# Altium integrated library Lattice FPGA XP2.IntLib: 160 symbols (part 20 of 34)
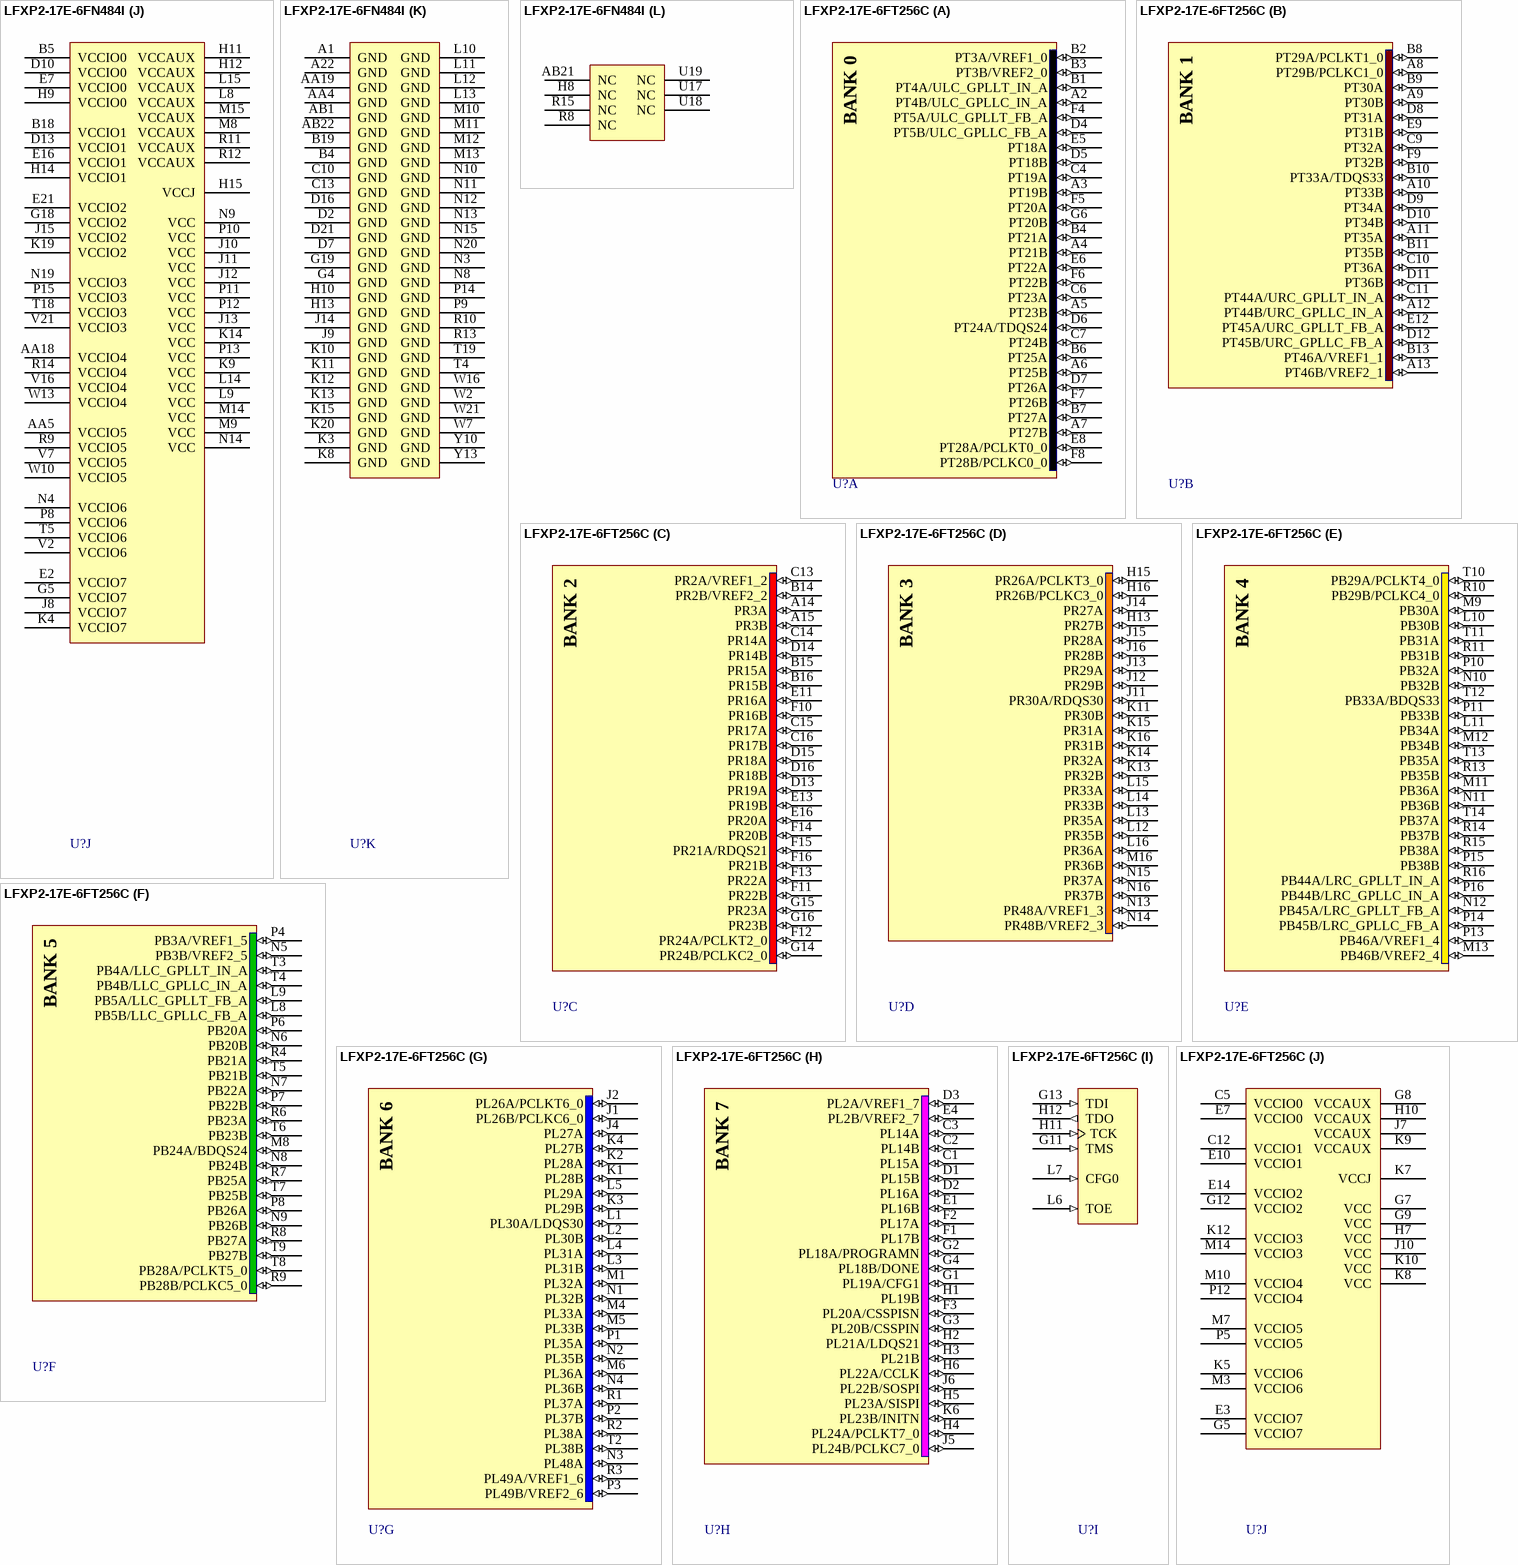
[diagram p183: symbols LFXP2-17E-6FN484I to LFXP2-17E-6FT256C]

## LFXP2-17E-6FN484I
designator U?
XP2, 1.2V FPGA, 358 I/Os, 17k LUTs, 484-Pin fpBGA, Speed Grade 6, Industrial Grade, Pb-Free; Published: 20-Jul-2007; DatasheetVersion: ver01.8, Jun-2008; PackageVersion: ver01.6 Apr-2008; PackageReference: fpBGA484; Publisher: Altium Limited; PackageDescription: 484-Ball Fine Pitch Ball Grid Array (fpBGA484); Code_IPC: BGA100P22X22-484; ComponentLink1Description: Manufacturer Link; ComponentLink1URL: http://www.latticesemi.com/products/fpga/xp2/index.cfm; ComponentLink2Description: Datasheet; ComponentLink2URL: http://www.latticesemi.com/documents/DS1009.pdf; ComponentLink3Description: Packaging Specification; ComponentLink3URL: http://www.latticesemi.com/lit/docs/package/pkg.pdf
footprint fpBGA484 (BGA, 484-Leads, Body 23x23mm, Pitch 1mm)
3D model LFXP2-17E-F484 (484-Ball Fine Pitch Ball Grid Array (fpBGA484))
part A pins: A2 PT4A/ULC_GPLLT_IN_A (io), A3 PT9A (io), A4 PT9B (io), A5 PT12A (io), A6 PT12B (io), A7 PT16A (io), A8 PT17A (io), A9 PT17B (io), A10 PT21A (io), A11 PT21B (io), A12 PT24B (io), A13 PT25B (io), A14 PT28B/PCLKC0_0 (io), B3 PT4B/ULC_GPLLC_IN_A (io), B6 PT13A (io), B7 PT13B (io), B8 PT16B (io), B9 PT20A (io), B10 PT20B (io), B11 PT24A/TDQS24 (io), B12 PT25A (io), B13 PT28A/PCLKT0_0 (io), C4 PT8B (io), C5 PT8A (io), C6 PT10A (io), C7 PT10B (io), C8 PT14B (io), C9 PT18B (io), C11 PT22B (io), C12 PT26B (io), D5 PT6B (io), D6 PT6A/TDQS6 (io), D8 PT14A (io), D9 PT18A (io), D11 PT22A (io), E6 PT3B/VREF2_0 (io), E8 PT7B (io), E9 PT15A/TDQS15 (io), E10 PT19B (io), E11 PT26A (io), F6 PT3A/VREF1_0 (io), F7 PT5A/ULC_GPLLT_FB_A (io), F8 PT7A (io), F9 PT15B (io), F10 PT19A (io), F11 PT27A (io), F12 PT27B (io), G7 PT5B/ULC_GPLLC_FB_A (io), G8 PT23A (io), G9 PT23B (io), H7 PT11A (io), J7 PT11B (io)
part B pins: A15 PT29B/PCLKC1_0 (io), A16 PT32B (io), A17 PT33B (io), A18 PT36B (io), A19 PT42B (io), A20 PT44A/URC_GPLLT_IN_A (io), A21 PT42A/TDQS42 (io), B14 PT29A/PCLKT1_0 (io), B15 PT32A (io), B16 PT33A/TDQS33 (io), B17 PT36A (io), C14 PT34B (io), C15 PT41A (io), C16 PT37A (io), C17 PT37B (io), C18 PT45A/URC_GPLLT_FB_A (io), C19 PT45B/URC_GPLLC_FB_A (io), D12 PT30B (io), D14 PT38B (io), D15 PT41B (io), D17 PT43A (io), D18 PT43B (io), D19 PT44B/URC_GPLLC_IN_A (io), E12 PT30A (io), E13 PT34A (io), E14 PT40A (io), E15 PT40B (io), E17 PT46A/VREF1_1 (io), E18 PT46B/VREF2_1 (io), F13 PT35A (io), F14 PT38A (io), G10 PT31A (io), G11 PT31B (io), G12 PT35B (io), G13 PT39A (io), G14 PT39B (io)
part C pins: B20 PR4A (io), B21 PR8A (io), B22 PR12A (io), C20 PR4B (io), C21 PR8B (io), C22 PR12B (io), D20 PR5B (io), D22 PR13A/RDQS13 (io), E19 PR10A (io), E20 PR5A (io), E22 PR13B (io), F15 PR2A/VREF1_2 (io), F16 PR2B/VREF2_2 (io), F17 PR3B (io), F18 PR3A (io), F19 PR10B (io), F20 PR16A (io), F21 PR16B (io), F22 PR17B (io), G15 PR6A (io), G16 PR6B (io), G17 PR7A (io), G20 PR9B (io), G21 PR17A (io), G22 PR20A (io), H16 PR14A (io), H17 PR14B (io), H18 PR7B (io), H19 PR11B (io), H20 PR9A (io), H21 PR21A/RDQS21 (io), H22 PR20B (io), J16 PR22A (io), J17 PR18A (io), J18 PR15B (io), J19 PR15A (io), J20 PR11A (io), J21 PR21B (io), J22 PR24A/PCLKT2_0 (io), K16 PR22B (io), K17 PR18B (io), K18 PR19A (io), K22 PR24B/PCLKC2_0 (io), L17 PR19B (io), L18 PR23B (io), L19 PR23A (io)
part D pins: K21 PR26A/PCLKT3_0 (io), L21 PR26B/PCLKC3_0 (io), M16 PR28B (io), M17 PR28A (io), M19 PR27A (io), M20 PR27B (io), M21 PR29A (io), M22 PR30A/RDQS30 (io), N16 PR36B (io), N17 PR36A (io), N18 PR31B (io), N21 PR29B (io), N22 PR30B (io), P16 PR40A (io), P17 PR40B (io), P18 PR31A (io), P19 PR37A (io), P20 PR32B (io), P21 PR32A (io), P22 PR33A (io), R16 PR44A (io), R17 PR41B (io), R18 PR41A (io), R19 PR37B (io), R20 PR35B (io), R21 PR35A (io), R22 PR33B (io), T17 PR44B (io), T20 PR38B (io), T21 PR38A (io), T22 PR39A/RDQS39 (io), U20 PR43A (io), U21 PR42A (io), U22 PR39B (io), V17 PR48A/VREF1_3 (io), V18 PR48B/VREF2_3 (io), V19 PR47B (io), V20 PR43B (io), V22 PR42B (io), W19 PR47A (io), W20 PR46B (io), W22 PR46A (io), Y19 PR45B (io), Y20 PR45A (io)
part E pins: AA13 PB30B (io), AA14 PB33A/BDQS33 (io), AA15 PB33B (io), AA16 PB36A (io), AA17 PB36B (io), AA20 PB37B (io), AA21 PB40B (io), AA22 PB40A (io), AB16 PB29A/PCLKT4_0 (io), AB17 PB29B/PCLKC4_0 (io), AB18 PB32A (io), AB19 PB32B (io), AB20 PB37A (io), T14 PB34A (io), T15 PB34B (io), T16 PB43A (io), U12 PB31B (io), U13 PB35B (io), U14 PB39A (io), U15 PB39B (io), U16 PB43B (io), V12 PB31A (io), V13 PB35A (io), V14 PB38B (io), V15 PB42B (io), W14 PB38A (io), W15 PB42A/BDQS42 (io), W17 PB46A/VREF1_4 (io), W18 PB46B/VREF2_4 (io), Y14 PB30A (io), Y15 PB44B/LRC_GPLLC_IN_A (io), Y16 PB44A/LRC_GPLLT_IN_A (io), Y17 PB45A/LRC_GPLLT_FB_A (io), Y18 PB45B/LRC_GPLLC_FB_A (io), Y21 PB41B (io), Y22 PB41A (io)
part F pins: AA6 PB13A (io), AA7 PB13B (io), AA8 PB16A (io), AA9 PB16B (io), AA10 PB18B (io), AA11 PB18A (io), AA12 PB22A (io), AB2 PB17A (io), AB3 PB17B (io), AB4 PB20A (io), AB5 PB20B (io), AB6 PB21A (io), AB7 PB21B (io), AB8 PB24A/BDQS24 (io), AB9 PB24B (io), AB10 PB25B (io), AB11 PB25A (io), AB12 PB26B (io), AB13 PB26A (io), AB14 PB28A/PCLKT5_0 (io), AB15 PB28B/PCLKC5_0 (io), T8 PB7A (io), T9 PB7B (io), T10 PB14A (io), T11 PB19A (io), T12 PB23A (io), T13 PB23B (io), U6 PB5B/LLC_GPLLC_FB_A (io), U7 PB3A/VREF1_5 (io), U8 PB3B/VREF2_5 (io), U9 PB11A (io), U10 PB11B (io), U11 PB19B (io), V6 PB5A/LLC_GPLLT_FB_A (io), V8 PB6A/BDQS6 (io), V9 PB12A (io), V10 PB14B (io), V11 PB15A/BDQS15 (io), W4 PB4A/LLC_GPLLT_IN_A (io), W5 PB8A (io), W6 PB8B (io), W8 PB6B (io), W9 PB12B (io), W11 PB15B (io), W12 PB27B (io), Y5 PB4B/LLC_GPLLC_IN_A (io), Y6 PB9A (io), Y7 PB9B (io), Y8 PB10B (io), Y9 PB10A (io), Y11 PB22B (io), Y12 PB27A (io)
part G pins: AA1 PL35B (io), AA2 PL38A (io), AA3 PL47A (io), M3 PL29A (io), M4 PL28A (io), M5 PL28B (io), M6 PL27A (io), M7 PL27B (io), N2 PL29B (io), N5 PL31A (io), N6 PL31B (io), N7 PL36A (io), P1 PL26A/PCLKT6_0 (io), P2 PL32A (io), P3 PL32B (io), P4 PL37A (io), P5 PL37B (io), P6 PL40B (io), P7 PL36B (io), R1 PL26B/PCLKC6_0 (io), R2 PL39A/LDQS39 (io), R3 PL41A (io), R4 PL41B (io), R5 PL40A (io), R6 PL44B (io), R7 PL44A (io), T1 PL30A/LDQS30 (io), T2 PL39B (io), T3 PL46A (io), T6 PL48A (io), T7 PL48B (io), U1 PL30B (io), U2 PL43A (io), U3 PL46B (io), U4 PL45A (io), U5 PL45B (io), V1 PL33A (io), V3 PL43B (io), V4 PL49A/VREF1_6 (io), V5 PL49B/VREF2_6 (io), W1 PL33B (io), W3 PL42B (io), Y1 PL35A (io), Y2 PL38B (io), Y3 PL42A (io), Y4 PL47B (io)
part H pins: B1 PL3A (io), B2 PL2B/VREF2_7 (io), C1 PL4A (io), C2 PL3B (io), C3 PL2A/VREF1_7 (io), D1 PL4B (io), D3 PL6B (io), D4 PL6A (io), E1 PL5B (io), E3 PL5A (io), E4 PL7A (io), E5 PL7B (io), F1 PL9A (io), F2 PL8B (io), F3 PL8A (io), F4 PL10B (io), F5 PL10A (io), G1 PL9B (io), G2 PL12B (io), G3 PL12A (io), G6 PL14A (io), H1 PL13A/LDQS13 (io), H2 PL13B (io), H3 PL11A (io), H4 PL11B (io), H5 PL15A (io), H6 PL14B (io), J1 PL16A (io), J2 PL16B (io), J3 PL19A/CFG1 (io), J4 PL19B (io), J5 PL15B (io), J6 PL18A/PROGRAMN (io), K1 PL17A (io), K2 PL17B (io), K5 PL18B/DONE (io), K6 PL22A/CCLK (io), K7 PL22B/SOSPI (io), L1 PL20A/CSSPISN (io), L2 PL20B/CSSPIN (io), L3 PL24A/PCLKT7_0 (io), L4 PL24B/PCLKC7_0 (io), L5 PL23A/SISPI (io), L6 PL23B/INITN (io), M1 PL21A/LDQS21 (io), M2 PL21B (io)
part I pins: L7 TOE (in), L16 TCK (in), L20 TDI (in), L22 TMS (in), M18 TDO (out), N1 CFG0 (in)
part J pins: AA5 VCCIO5 (power), AA18 VCCIO4 (power), B5 VCCIO0 (power), B18 VCCIO1 (power), D10 VCCIO0 (power), D13 VCCIO1 (power), E2 VCCIO7 (power), E7 VCCIO0 (power), E16 VCCIO1 (power), E21 VCCIO2 (power), G5 VCCIO7 (power), G18 VCCIO2 (power), H9 VCCIO0 (power), H11 VCCAUX (power), H12 VCCAUX (power), H14 VCCIO1 (power), H15 VCCJ (power), J8 VCCIO7 (power), J10 VCC (power), J11 VCC (power), J12 VCC (power), J13 VCC (power), J15 VCCIO2 (power), K4 VCCIO7 (power), K9 VCC (power), K14 VCC (power), K19 VCCIO2 (power), L8 VCCAUX (power), L9 VCC (power), L14 VCC (power), L15 VCCAUX (power), M8 VCCAUX (power), M9 VCC (power), M14 VCC (power), M15 VCCAUX (power), N4 VCCIO6 (power), N9 VCC (power), N14 VCC (power), N19 VCCIO3 (power), P8 VCCIO6 (power), P10 VCC (power), P11 VCC (power), P12 VCC (power), P13 VCC (power), P15 VCCIO3 (power), R9 VCCIO5 (power), R11 VCCAUX (power), R12 VCCAUX (power), R14 VCCIO4 (power), T5 VCCIO6 (power), T18 VCCIO3 (power), V2 VCCIO6 (power), V7 VCCIO5 (power), V16 VCCIO4 (power), V21 VCCIO3 (power), W10 VCCIO5 (power), W13 VCCIO4 (power)
part K pins: A1 GND (power), A22 GND (power), AA4 GND (power), AA19 GND (power), AB1 GND (power), AB22 GND (power), B4 GND (power), B19 GND (power), C10 GND (power), C13 GND (power), D2 GND (power), D7 GND (power), D16 GND (power), D21 GND (power), G4 GND (power), G19 GND (power), H10 GND (power), H13 GND (power), J9 GND (power), J14 GND (power), K3 GND (power), K8 GND (power), K10 GND (power), K11 GND (power), K12 GND (power), K13 GND (power), K15 GND (power), K20 GND (power), L10 GND (power), L11 GND (power), L12 GND (power), L13 GND (power), M10 GND (power), M11 GND (power), M12 GND (power), M13 GND (power), N3 GND (power), N8 GND (power), N10 GND (power), N11 GND (power), N12 GND (power), N13 GND (power), N15 GND (power), N20 GND (power), P9 GND (power), P14 GND (power), R10 GND (power), R13 GND (power), T4 GND (power), T19 GND (power), W2 GND (power), W7 GND (power), W16 GND (power), W21 GND (power), Y10 GND (power), Y13 GND (power)
part L pins: AB21 NC, H8 NC, R8 NC, R15 NC, U17 NC, U18 NC, U19 NC
part A text: BANK 0
part B text: BANK 1
part C text: BANK 2
part D text: BANK 3
part E text: BANK 4
part F text: BANK 5
part G text: BANK 6
part H text: BANK 7

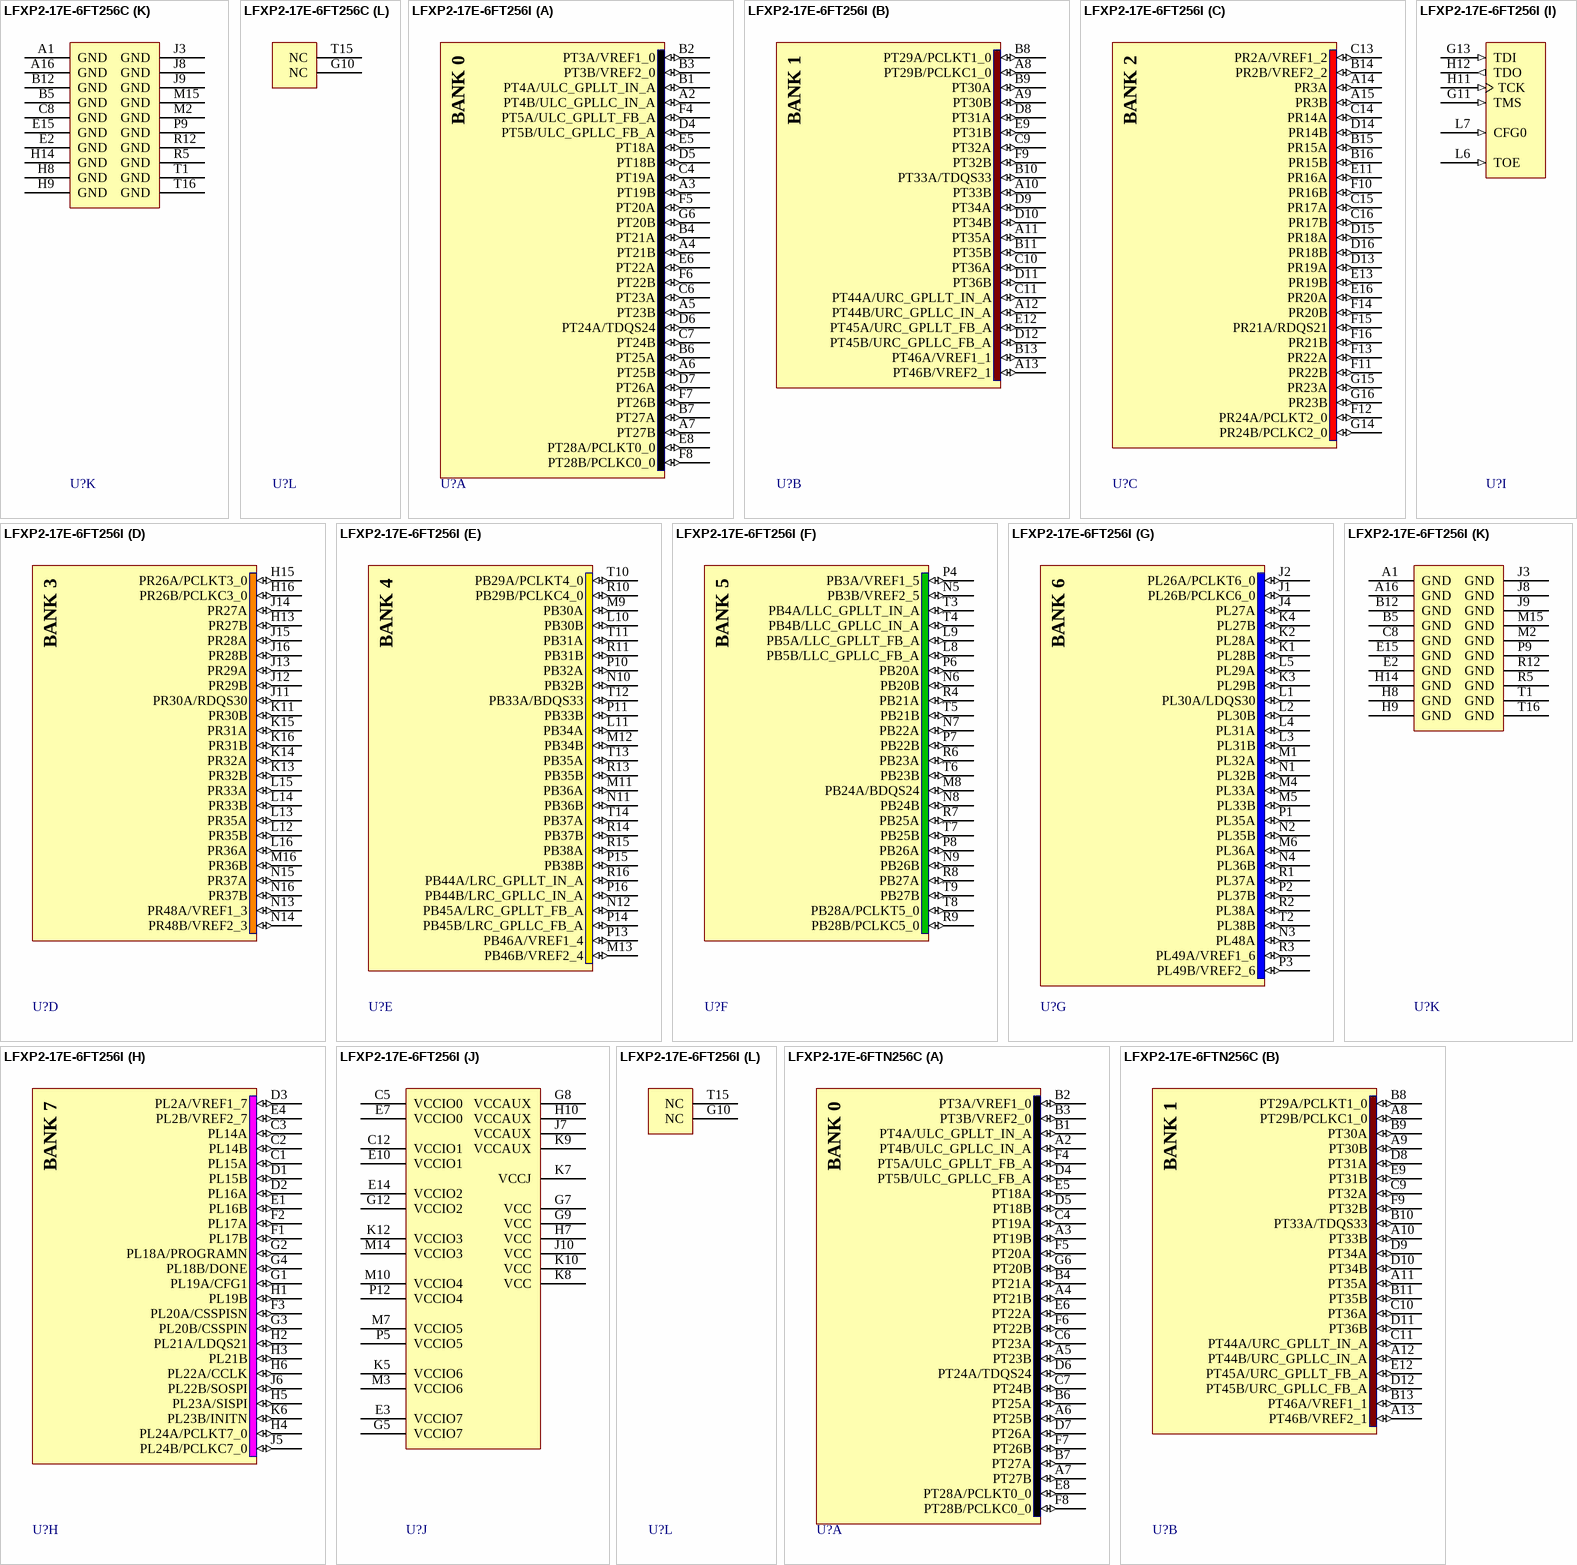
[diagram p78: symbols LFXP2-17E-6FT256C to LFXP2-17E-6FTN256C]

## LFXP2-17E-6FT256C
designator U?
XP2, 1.2V FPGA, 201 I/Os, 17k LUTs, 256-Pin ftBGA, Speed Grade 6, Commerical Grade; Published: 20-Jul-2007; DatasheetVersion: ver01.8, Jun-2008; PackageVersion: ver01.6 Apr-2008; PackageReference: ftBGA256; Publisher: Altium Limited; PackageDescription: 256-Ball Fine Thin Ball Grid Array (ftBGA256); ComponentLink1Description: Manufacturer Link; ComponentLink1URL: http://www.latticesemi.com/products/fpga/xp2/index.cfm; ComponentLink2Description: Datasheet; ComponentLink2URL: http://www.latticesemi.com/documents/DS1009.pdf; ComponentLink3Description: Packaging Specification; ComponentLink3URL: http://www.latticesemi.com/lit/docs/package/pkg.pdf
footprint ftBGA256 (BGA, 256-Leads, Body 17x17mm, Pitch 1mm)
3D model LFXP2-17E-FT256 (256-Ball Fine Thin Ball Grid Array (ftBGA256))
part A pins: A2 PT4B/ULC_GPLLC_IN_A (io), A3 PT19B (io), A4 PT21B (io), A5 PT23B (io), A6 PT25B (io), A7 PT27B (io), B1 PT4A/ULC_GPLLT_IN_A (io), B2 PT3A/VREF1_0 (io), B3 PT3B/VREF2_0 (io), B4 PT21A (io), B6 PT25A (io), B7 PT27A (io), C4 PT19A (io), C6 PT23A (io), C7 PT24B (io), D4 PT5B/ULC_GPLLC_FB_A (io), D5 PT18B (io), D6 PT24A/TDQS24 (io), D7 PT26A (io), E5 PT18A (io), E6 PT22A (io), E8 PT28A/PCLKT0_0 (io), F4 PT5A/ULC_GPLLT_FB_A (io), F5 PT20A (io), F6 PT22B (io), F7 PT26B (io), F8 PT28B/PCLKC0_0 (io), G6 PT20B (io)
part B pins: A8 PT29B/PCLKC1_0 (io), A9 PT30B (io), A10 PT33B (io), A11 PT35A (io), A12 PT44B/URC_GPLLC_IN_A (io), A13 PT46B/VREF2_1 (io), B8 PT29A/PCLKT1_0 (io), B9 PT30A (io), B10 PT33A/TDQS33 (io), B11 PT35B (io), B13 PT46A/VREF1_1 (io), C9 PT32A (io), C10 PT36A (io), C11 PT44A/URC_GPLLT_IN_A (io), D8 PT31A (io), D9 PT34A (io), D10 PT34B (io), D11 PT36B (io), D12 PT45B/URC_GPLLC_FB_A (io), E9 PT31B (io), E12 PT45A/URC_GPLLT_FB_A (io), F9 PT32B (io)
part C pins: A14 PR3A (io), A15 PR3B (io), B14 PR2B/VREF2_2 (io), B15 PR15A (io), B16 PR15B (io), C13 PR2A/VREF1_2 (io), C14 PR14A (io), C15 PR17A (io), C16 PR17B (io), D13 PR19A (io), D14 PR14B (io), D15 PR18A (io), D16 PR18B (io), E11 PR16A (io), E13 PR19B (io), E16 PR20A (io), F10 PR16B (io), F11 PR22B (io), F12 PR24A/PCLKT2_0 (io), F13 PR22A (io), F14 PR20B (io), F15 PR21A/RDQS21 (io), F16 PR21B (io), G14 PR24B/PCLKC2_0 (io), G15 PR23A (io), G16 PR23B (io)
part D pins: H13 PR27B (io), H15 PR26A/PCLKT3_0 (io), H16 PR26B/PCLKC3_0 (io), J11 PR30A/RDQS30 (io), J12 PR29B (io), J13 PR29A (io), J14 PR27A (io), J15 PR28A (io), J16 PR28B (io), K11 PR30B (io), K13 PR32B (io), K14 PR32A (io), K15 PR31A (io), K16 PR31B (io), L12 PR35B (io), L13 PR35A (io), L14 PR33B (io), L15 PR33A (io), L16 PR36A (io), M16 PR36B (io), N13 PR48A/VREF1_3 (io), N14 PR48B/VREF2_3 (io), N15 PR37A (io), N16 PR37B (io)
part E pins: L10 PB30B (io), L11 PB34A (io), M9 PB30A (io), M11 PB36A (io), M12 PB34B (io), M13 PB46B/VREF2_4 (io), N10 PB32B (io), N11 PB36B (io), N12 PB45A/LRC_GPLLT_FB_A (io), P10 PB32A (io), P11 PB33B (io), P13 PB46A/VREF1_4 (io), P14 PB45B/LRC_GPLLC_FB_A (io), P15 PB38B (io), P16 PB44B/LRC_GPLLC_IN_A (io), R10 PB29B/PCLKC4_0 (io), R11 PB31B (io), R13 PB35B (io), R14 PB37B (io), R15 PB38A (io), R16 PB44A/LRC_GPLLT_IN_A (io), T10 PB29A/PCLKT4_0 (io), T11 PB31A (io), T12 PB33A/BDQS33 (io), T13 PB35A (io), T14 PB37A (io)
part F pins: L8 PB5B/LLC_GPLLC_FB_A (io), L9 PB5A/LLC_GPLLT_FB_A (io), M8 PB24A/BDQS24 (io), N5 PB3B/VREF2_5 (io), N6 PB20B (io), N7 PB22A (io), N8 PB24B (io), N9 PB26B (io), P4 PB3A/VREF1_5 (io), P6 PB20A (io), P7 PB22B (io), P8 PB26A (io), R4 PB21A (io), R6 PB23A (io), R7 PB25A (io), R8 PB27A (io), R9 PB28B/PCLKC5_0 (io), T3 PB4A/LLC_GPLLT_IN_A (io), T4 PB4B/LLC_GPLLC_IN_A (io), T5 PB21B (io), T6 PB23B (io), T7 PB25B (io), T8 PB28A/PCLKT5_0 (io), T9 PB27B (io)
part G pins: J1 PL26B/PCLKC6_0 (io), J2 PL26A/PCLKT6_0 (io), J4 PL27A (io), K1 PL28B (io), K2 PL28A (io), K3 PL29B (io), K4 PL27B (io), L1 PL30A/LDQS30 (io), L2 PL30B (io), L3 PL31B (io), L4 PL31A (io), L5 PL29A (io), M1 PL32A (io), M4 PL33A (io), M5 PL33B (io), M6 PL36A (io), N1 PL32B (io), N2 PL35B (io), N3 PL48A (io), N4 PL36B (io), P1 PL35A (io), P2 PL37B (io), P3 PL49B/VREF2_6 (io), R1 PL37A (io), R2 PL38A (io), R3 PL49A/VREF1_6 (io), T2 PL38B (io)
part H pins: C1 PL15A (io), C2 PL14B (io), C3 PL14A (io), D1 PL15B (io), D2 PL16A (io), D3 PL2A/VREF1_7 (io), E1 PL16B (io), E4 PL2B/VREF2_7 (io), F1 PL17B (io), F2 PL17A (io), F3 PL20A/CSSPISN (io), G1 PL19A/CFG1 (io), G2 PL18A/PROGRAMN (io), G3 PL20B/CSSPIN (io), G4 PL18B/DONE (io), H1 PL19B (io), H2 PL21A/LDQS21 (io), H3 PL21B (io), H4 PL24A/PCLKT7_0 (io), H5 PL23A/SISPI (io), H6 PL22A/CCLK (io), J5 PL24B/PCLKC7_0 (io), J6 PL22B/SOSPI (io), K6 PL23B/INITN (io)
part I pins: G11 TMS (in), G13 TDI (in), H11 TCK (in), H12 TDO (out), L6 TOE (in), L7 CFG0 (in)
part J pins: C5 VCCIO0 (power), C12 VCCIO1 (power), E3 VCCIO7 (power), E7 VCCIO0 (power), E10 VCCIO1 (power), E14 VCCIO2 (power), G5 VCCIO7 (power), G7 VCC (power), G8 VCCAUX (power), G9 VCC (power), G12 VCCIO2 (power), H7 VCC (power), H10 VCCAUX (power), J7 VCCAUX (power), J10 VCC (power), K5 VCCIO6 (power), K7 VCCJ (power), K8 VCC (power), K9 VCCAUX (power), K10 VCC (power), K12 VCCIO3 (power), M3 VCCIO6 (power), M7 VCCIO5 (power), M10 VCCIO4 (power), M14 VCCIO3 (power), P5 VCCIO5 (power), P12 VCCIO4 (power)
part K pins: A1 GND (power), A16 GND (power), B5 GND (power), B12 GND (power), C8 GND (power), E2 GND (power), E15 GND (power), H8 GND (power), H9 GND (power), H14 GND (power), J3 GND (power), J8 GND (power), J9 GND (power), M2 GND (power), M15 GND (power), P9 GND (power), R5 GND (power), R12 GND (power), T1 GND (power), T16 GND (power)
part L pins: G10 NC, T15 NC
part A text: BANK 0
part B text: BANK 1
part C text: BANK 2
part D text: BANK 3
part E text: BANK 4
part F text: BANK 5
part G text: BANK 6
part H text: BANK 7

## LFXP2-17E-6FT256I
designator U?
XP2, 1.2V FPGA, 201 I/Os, 17k LUTs, 256-Pin ftBGA, Speed Grade 6, Industrial Grade; Published: 20-Jul-2007; DatasheetVersion: ver01.8, Jun-2008; PackageVersion: ver01.6 Apr-2008; PackageReference: ftBGA256; Publisher: Altium Limited; PackageDescription: 256-Ball Fine Thin Ball Grid Array (ftBGA256); ComponentLink1Description: Manufacturer Link; ComponentLink1URL: http://www.latticesemi.com/products/fpga/xp2/index.cfm; ComponentLink2Description: Datasheet; ComponentLink2URL: http://www.latticesemi.com/documents/DS1009.pdf; ComponentLink3Description: Packaging Specification; ComponentLink3URL: http://www.latticesemi.com/lit/docs/package/pkg.pdf
footprint ftBGA256 (BGA, 256-Leads, Body 17x17mm, Pitch 1mm)
3D model LFXP2-17E-FT256 (256-Ball Fine Thin Ball Grid Array (ftBGA256))
part A pins: A2 PT4B/ULC_GPLLC_IN_A (io), A3 PT19B (io), A4 PT21B (io), A5 PT23B (io), A6 PT25B (io), A7 PT27B (io), B1 PT4A/ULC_GPLLT_IN_A (io), B2 PT3A/VREF1_0 (io), B3 PT3B/VREF2_0 (io), B4 PT21A (io), B6 PT25A (io), B7 PT27A (io), C4 PT19A (io), C6 PT23A (io), C7 PT24B (io), D4 PT5B/ULC_GPLLC_FB_A (io), D5 PT18B (io), D6 PT24A/TDQS24 (io), D7 PT26A (io), E5 PT18A (io), E6 PT22A (io), E8 PT28A/PCLKT0_0 (io), F4 PT5A/ULC_GPLLT_FB_A (io), F5 PT20A (io), F6 PT22B (io), F7 PT26B (io), F8 PT28B/PCLKC0_0 (io), G6 PT20B (io)
part B pins: A8 PT29B/PCLKC1_0 (io), A9 PT30B (io), A10 PT33B (io), A11 PT35A (io), A12 PT44B/URC_GPLLC_IN_A (io), A13 PT46B/VREF2_1 (io), B8 PT29A/PCLKT1_0 (io), B9 PT30A (io), B10 PT33A/TDQS33 (io), B11 PT35B (io), B13 PT46A/VREF1_1 (io), C9 PT32A (io), C10 PT36A (io), C11 PT44A/URC_GPLLT_IN_A (io), D8 PT31A (io), D9 PT34A (io), D10 PT34B (io), D11 PT36B (io), D12 PT45B/URC_GPLLC_FB_A (io), E9 PT31B (io), E12 PT45A/URC_GPLLT_FB_A (io), F9 PT32B (io)
part C pins: A14 PR3A (io), A15 PR3B (io), B14 PR2B/VREF2_2 (io), B15 PR15A (io), B16 PR15B (io), C13 PR2A/VREF1_2 (io), C14 PR14A (io), C15 PR17A (io), C16 PR17B (io), D13 PR19A (io), D14 PR14B (io), D15 PR18A (io), D16 PR18B (io), E11 PR16A (io), E13 PR19B (io), E16 PR20A (io), F10 PR16B (io), F11 PR22B (io), F12 PR24A/PCLKT2_0 (io), F13 PR22A (io), F14 PR20B (io), F15 PR21A/RDQS21 (io), F16 PR21B (io), G14 PR24B/PCLKC2_0 (io), G15 PR23A (io), G16 PR23B (io)
part D pins: H13 PR27B (io), H15 PR26A/PCLKT3_0 (io), H16 PR26B/PCLKC3_0 (io), J11 PR30A/RDQS30 (io), J12 PR29B (io), J13 PR29A (io), J14 PR27A (io), J15 PR28A (io), J16 PR28B (io), K11 PR30B (io), K13 PR32B (io), K14 PR32A (io), K15 PR31A (io), K16 PR31B (io), L12 PR35B (io), L13 PR35A (io), L14 PR33B (io), L15 PR33A (io), L16 PR36A (io), M16 PR36B (io), N13 PR48A/VREF1_3 (io), N14 PR48B/VREF2_3 (io), N15 PR37A (io), N16 PR37B (io)
part E pins: L10 PB30B (io), L11 PB34A (io), M9 PB30A (io), M11 PB36A (io), M12 PB34B (io), M13 PB46B/VREF2_4 (io), N10 PB32B (io), N11 PB36B (io), N12 PB45A/LRC_GPLLT_FB_A (io), P10 PB32A (io), P11 PB33B (io), P13 PB46A/VREF1_4 (io), P14 PB45B/LRC_GPLLC_FB_A (io), P15 PB38B (io), P16 PB44B/LRC_GPLLC_IN_A (io), R10 PB29B/PCLKC4_0 (io), R11 PB31B (io), R13 PB35B (io), R14 PB37B (io), R15 PB38A (io), R16 PB44A/LRC_GPLLT_IN_A (io), T10 PB29A/PCLKT4_0 (io), T11 PB31A (io), T12 PB33A/BDQS33 (io), T13 PB35A (io), T14 PB37A (io)
part F pins: L8 PB5B/LLC_GPLLC_FB_A (io), L9 PB5A/LLC_GPLLT_FB_A (io), M8 PB24A/BDQS24 (io), N5 PB3B/VREF2_5 (io), N6 PB20B (io), N7 PB22A (io), N8 PB24B (io), N9 PB26B (io), P4 PB3A/VREF1_5 (io), P6 PB20A (io), P7 PB22B (io), P8 PB26A (io), R4 PB21A (io), R6 PB23A (io), R7 PB25A (io), R8 PB27A (io), R9 PB28B/PCLKC5_0 (io), T3 PB4A/LLC_GPLLT_IN_A (io), T4 PB4B/LLC_GPLLC_IN_A (io), T5 PB21B (io), T6 PB23B (io), T7 PB25B (io), T8 PB28A/PCLKT5_0 (io), T9 PB27B (io)
part G pins: J1 PL26B/PCLKC6_0 (io), J2 PL26A/PCLKT6_0 (io), J4 PL27A (io), K1 PL28B (io), K2 PL28A (io), K3 PL29B (io), K4 PL27B (io), L1 PL30A/LDQS30 (io), L2 PL30B (io), L3 PL31B (io), L4 PL31A (io), L5 PL29A (io), M1 PL32A (io), M4 PL33A (io), M5 PL33B (io), M6 PL36A (io), N1 PL32B (io), N2 PL35B (io), N3 PL48A (io), N4 PL36B (io), P1 PL35A (io), P2 PL37B (io), P3 PL49B/VREF2_6 (io), R1 PL37A (io), R2 PL38A (io), R3 PL49A/VREF1_6 (io), T2 PL38B (io)
part H pins: C1 PL15A (io), C2 PL14B (io), C3 PL14A (io), D1 PL15B (io), D2 PL16A (io), D3 PL2A/VREF1_7 (io), E1 PL16B (io), E4 PL2B/VREF2_7 (io), F1 PL17B (io), F2 PL17A (io), F3 PL20A/CSSPISN (io), G1 PL19A/CFG1 (io), G2 PL18A/PROGRAMN (io), G3 PL20B/CSSPIN (io), G4 PL18B/DONE (io), H1 PL19B (io), H2 PL21A/LDQS21 (io), H3 PL21B (io), H4 PL24A/PCLKT7_0 (io), H5 PL23A/SISPI (io), H6 PL22A/CCLK (io), J5 PL24B/PCLKC7_0 (io), J6 PL22B/SOSPI (io), K6 PL23B/INITN (io)
part I pins: G11 TMS (in), G13 TDI (in), H11 TCK (in), H12 TDO (out), L6 TOE (in), L7 CFG0 (in)
part J pins: C5 VCCIO0 (power), C12 VCCIO1 (power), E3 VCCIO7 (power), E7 VCCIO0 (power), E10 VCCIO1 (power), E14 VCCIO2 (power), G5 VCCIO7 (power), G7 VCC (power), G8 VCCAUX (power), G9 VCC (power), G12 VCCIO2 (power), H7 VCC (power), H10 VCCAUX (power), J7 VCCAUX (power), J10 VCC (power), K5 VCCIO6 (power), K7 VCCJ (power), K8 VCC (power), K9 VCCAUX (power), K10 VCC (power), K12 VCCIO3 (power), M3 VCCIO6 (power), M7 VCCIO5 (power), M10 VCCIO4 (power), M14 VCCIO3 (power), P5 VCCIO5 (power), P12 VCCIO4 (power)
part K pins: A1 GND (power), A16 GND (power), B5 GND (power), B12 GND (power), C8 GND (power), E2 GND (power), E15 GND (power), H8 GND (power), H9 GND (power), H14 GND (power), J3 GND (power), J8 GND (power), J9 GND (power), M2 GND (power), M15 GND (power), P9 GND (power), R5 GND (power), R12 GND (power), T1 GND (power), T16 GND (power)
part L pins: G10 NC, T15 NC
part A text: BANK 0
part B text: BANK 1
part C text: BANK 2
part D text: BANK 3
part E text: BANK 4
part F text: BANK 5
part G text: BANK 6
part H text: BANK 7

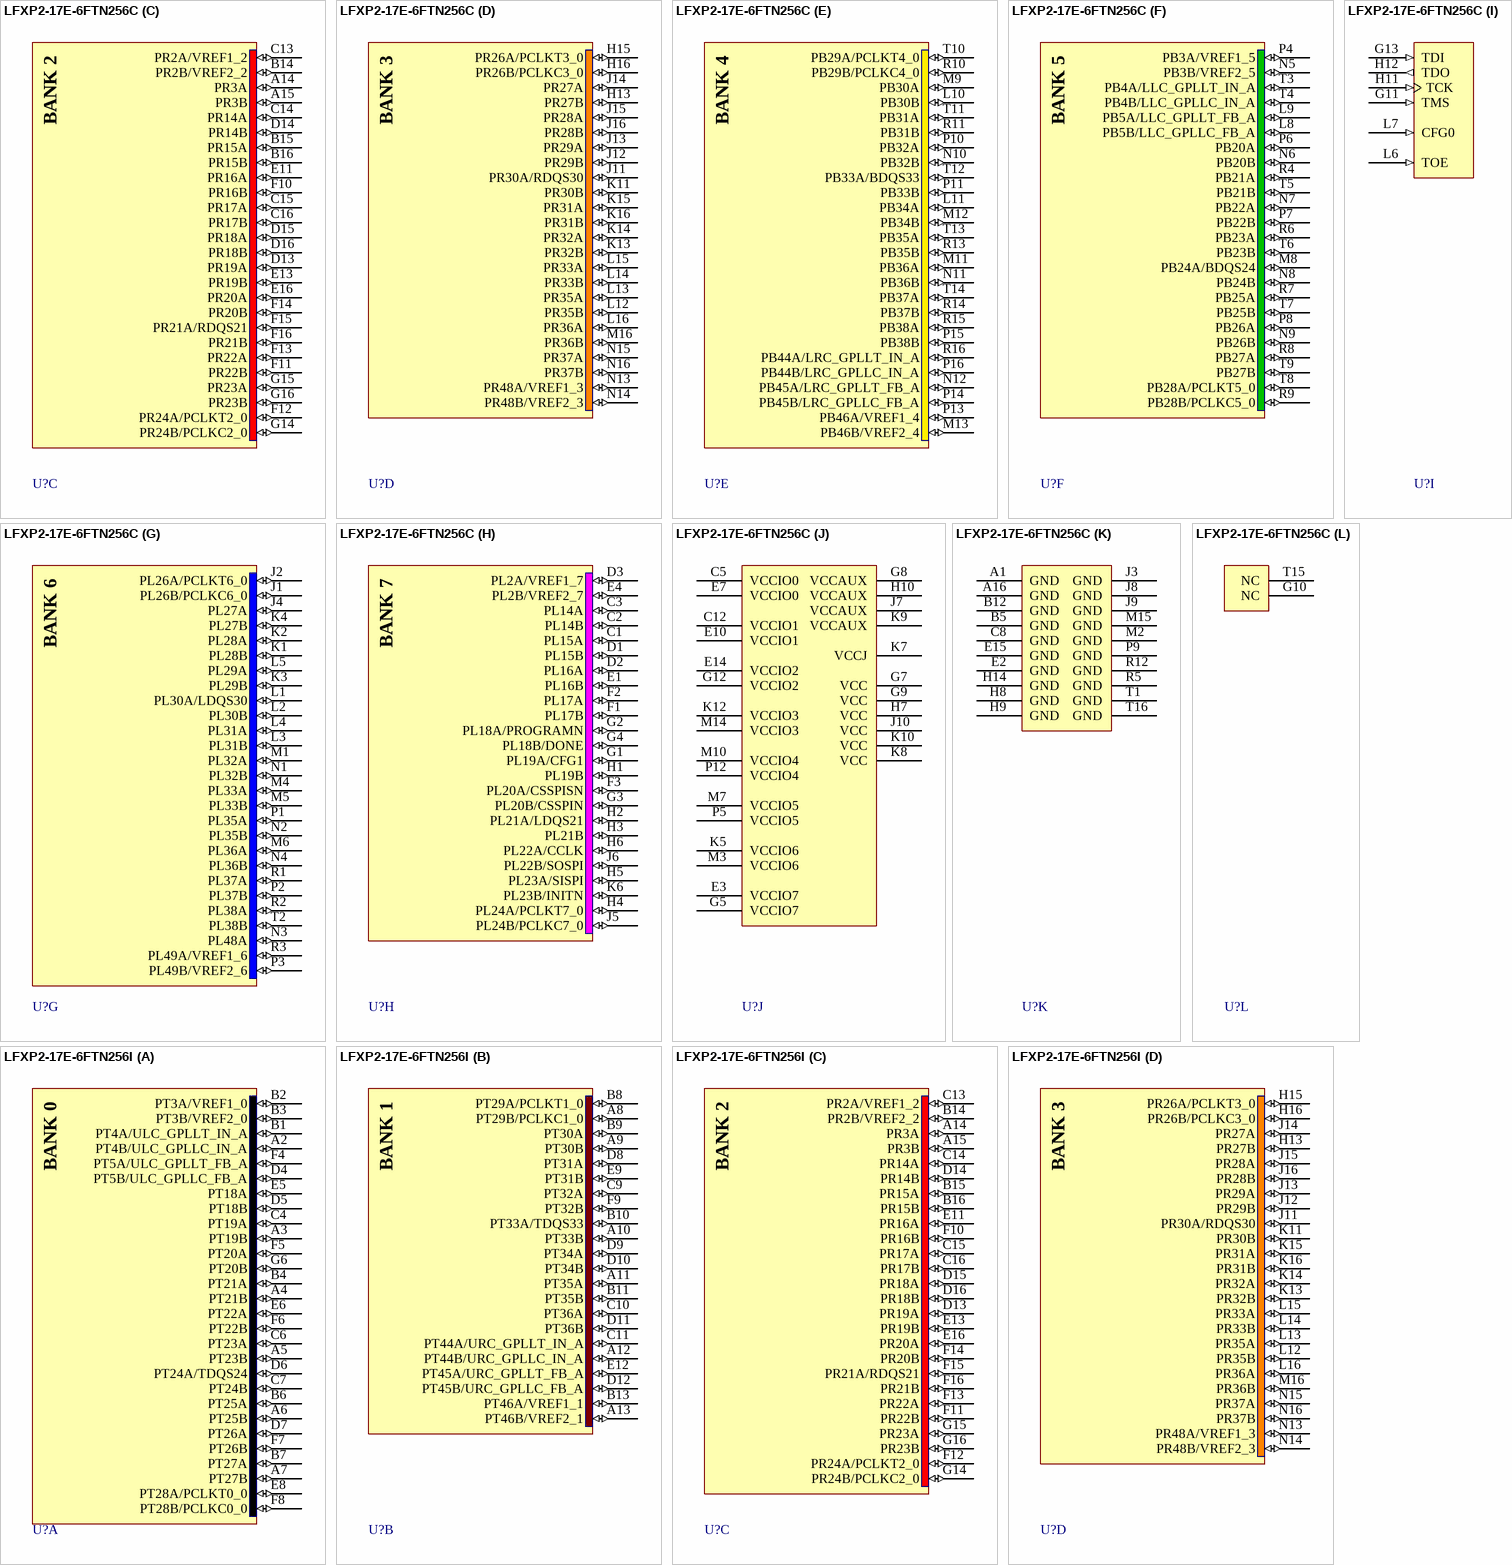
[diagram p79: symbols LFXP2-17E-6FTN256C to LFXP2-17E-6FTN256I]

## LFXP2-17E-6FTN256C
designator U?
XP2, 1.2V FPGA, 201 I/Os, 17k LUTs, 256-Pin ftBGA, Speed Grade 6, Commerical Grade, Pb-Free; Published: 20-Jul-2007; DatasheetVersion: ver01.8, Jun-2008; PackageVersion: ver01.6 Apr-2008; PackageReference: ftBGA256; Publisher: Altium Limited; PackageDescription: 256-Ball Fine Thin Ball Grid Array (ftBGA256); ComponentLink1Description: Manufacturer Link; ComponentLink1URL: http://www.latticesemi.com/products/fpga/xp2/index.cfm; ComponentLink2Description: Datasheet; ComponentLink2URL: http://www.latticesemi.com/documents/DS1009.pdf; ComponentLink3Description: Packaging Specification; ComponentLink3URL: http://www.latticesemi.com/lit/docs/package/pkg.pdf
footprint ftBGA256 (BGA, 256-Leads, Body 17x17mm, Pitch 1mm)
3D model LFXP2-17E-FT256 (256-Ball Fine Thin Ball Grid Array (ftBGA256))
part A pins: A2 PT4B/ULC_GPLLC_IN_A (io), A3 PT19B (io), A4 PT21B (io), A5 PT23B (io), A6 PT25B (io), A7 PT27B (io), B1 PT4A/ULC_GPLLT_IN_A (io), B2 PT3A/VREF1_0 (io), B3 PT3B/VREF2_0 (io), B4 PT21A (io), B6 PT25A (io), B7 PT27A (io), C4 PT19A (io), C6 PT23A (io), C7 PT24B (io), D4 PT5B/ULC_GPLLC_FB_A (io), D5 PT18B (io), D6 PT24A/TDQS24 (io), D7 PT26A (io), E5 PT18A (io), E6 PT22A (io), E8 PT28A/PCLKT0_0 (io), F4 PT5A/ULC_GPLLT_FB_A (io), F5 PT20A (io), F6 PT22B (io), F7 PT26B (io), F8 PT28B/PCLKC0_0 (io), G6 PT20B (io)
part B pins: A8 PT29B/PCLKC1_0 (io), A9 PT30B (io), A10 PT33B (io), A11 PT35A (io), A12 PT44B/URC_GPLLC_IN_A (io), A13 PT46B/VREF2_1 (io), B8 PT29A/PCLKT1_0 (io), B9 PT30A (io), B10 PT33A/TDQS33 (io), B11 PT35B (io), B13 PT46A/VREF1_1 (io), C9 PT32A (io), C10 PT36A (io), C11 PT44A/URC_GPLLT_IN_A (io), D8 PT31A (io), D9 PT34A (io), D10 PT34B (io), D11 PT36B (io), D12 PT45B/URC_GPLLC_FB_A (io), E9 PT31B (io), E12 PT45A/URC_GPLLT_FB_A (io), F9 PT32B (io)
part C pins: A14 PR3A (io), A15 PR3B (io), B14 PR2B/VREF2_2 (io), B15 PR15A (io), B16 PR15B (io), C13 PR2A/VREF1_2 (io), C14 PR14A (io), C15 PR17A (io), C16 PR17B (io), D13 PR19A (io), D14 PR14B (io), D15 PR18A (io), D16 PR18B (io), E11 PR16A (io), E13 PR19B (io), E16 PR20A (io), F10 PR16B (io), F11 PR22B (io), F12 PR24A/PCLKT2_0 (io), F13 PR22A (io), F14 PR20B (io), F15 PR21A/RDQS21 (io), F16 PR21B (io), G14 PR24B/PCLKC2_0 (io), G15 PR23A (io), G16 PR23B (io)
part D pins: H13 PR27B (io), H15 PR26A/PCLKT3_0 (io), H16 PR26B/PCLKC3_0 (io), J11 PR30A/RDQS30 (io), J12 PR29B (io), J13 PR29A (io), J14 PR27A (io), J15 PR28A (io), J16 PR28B (io), K11 PR30B (io), K13 PR32B (io), K14 PR32A (io), K15 PR31A (io), K16 PR31B (io), L12 PR35B (io), L13 PR35A (io), L14 PR33B (io), L15 PR33A (io), L16 PR36A (io), M16 PR36B (io), N13 PR48A/VREF1_3 (io), N14 PR48B/VREF2_3 (io), N15 PR37A (io), N16 PR37B (io)
part E pins: L10 PB30B (io), L11 PB34A (io), M9 PB30A (io), M11 PB36A (io), M12 PB34B (io), M13 PB46B/VREF2_4 (io), N10 PB32B (io), N11 PB36B (io), N12 PB45A/LRC_GPLLT_FB_A (io), P10 PB32A (io), P11 PB33B (io), P13 PB46A/VREF1_4 (io), P14 PB45B/LRC_GPLLC_FB_A (io), P15 PB38B (io), P16 PB44B/LRC_GPLLC_IN_A (io), R10 PB29B/PCLKC4_0 (io), R11 PB31B (io), R13 PB35B (io), R14 PB37B (io), R15 PB38A (io), R16 PB44A/LRC_GPLLT_IN_A (io), T10 PB29A/PCLKT4_0 (io), T11 PB31A (io), T12 PB33A/BDQS33 (io), T13 PB35A (io), T14 PB37A (io)
part F pins: L8 PB5B/LLC_GPLLC_FB_A (io), L9 PB5A/LLC_GPLLT_FB_A (io), M8 PB24A/BDQS24 (io), N5 PB3B/VREF2_5 (io), N6 PB20B (io), N7 PB22A (io), N8 PB24B (io), N9 PB26B (io), P4 PB3A/VREF1_5 (io), P6 PB20A (io), P7 PB22B (io), P8 PB26A (io), R4 PB21A (io), R6 PB23A (io), R7 PB25A (io), R8 PB27A (io), R9 PB28B/PCLKC5_0 (io), T3 PB4A/LLC_GPLLT_IN_A (io), T4 PB4B/LLC_GPLLC_IN_A (io), T5 PB21B (io), T6 PB23B (io), T7 PB25B (io), T8 PB28A/PCLKT5_0 (io), T9 PB27B (io)
part G pins: J1 PL26B/PCLKC6_0 (io), J2 PL26A/PCLKT6_0 (io), J4 PL27A (io), K1 PL28B (io), K2 PL28A (io), K3 PL29B (io), K4 PL27B (io), L1 PL30A/LDQS30 (io), L2 PL30B (io), L3 PL31B (io), L4 PL31A (io), L5 PL29A (io), M1 PL32A (io), M4 PL33A (io), M5 PL33B (io), M6 PL36A (io), N1 PL32B (io), N2 PL35B (io), N3 PL48A (io), N4 PL36B (io), P1 PL35A (io), P2 PL37B (io), P3 PL49B/VREF2_6 (io), R1 PL37A (io), R2 PL38A (io), R3 PL49A/VREF1_6 (io), T2 PL38B (io)
part H pins: C1 PL15A (io), C2 PL14B (io), C3 PL14A (io), D1 PL15B (io), D2 PL16A (io), D3 PL2A/VREF1_7 (io), E1 PL16B (io), E4 PL2B/VREF2_7 (io), F1 PL17B (io), F2 PL17A (io), F3 PL20A/CSSPISN (io), G1 PL19A/CFG1 (io), G2 PL18A/PROGRAMN (io), G3 PL20B/CSSPIN (io), G4 PL18B/DONE (io), H1 PL19B (io), H2 PL21A/LDQS21 (io), H3 PL21B (io), H4 PL24A/PCLKT7_0 (io), H5 PL23A/SISPI (io), H6 PL22A/CCLK (io), J5 PL24B/PCLKC7_0 (io), J6 PL22B/SOSPI (io), K6 PL23B/INITN (io)
part I pins: G11 TMS (in), G13 TDI (in), H11 TCK (in), H12 TDO (out), L6 TOE (in), L7 CFG0 (in)
part J pins: C5 VCCIO0 (power), C12 VCCIO1 (power), E3 VCCIO7 (power), E7 VCCIO0 (power), E10 VCCIO1 (power), E14 VCCIO2 (power), G5 VCCIO7 (power), G7 VCC (power), G8 VCCAUX (power), G9 VCC (power), G12 VCCIO2 (power), H7 VCC (power), H10 VCCAUX (power), J7 VCCAUX (power), J10 VCC (power), K5 VCCIO6 (power), K7 VCCJ (power), K8 VCC (power), K9 VCCAUX (power), K10 VCC (power), K12 VCCIO3 (power), M3 VCCIO6 (power), M7 VCCIO5 (power), M10 VCCIO4 (power), M14 VCCIO3 (power), P5 VCCIO5 (power), P12 VCCIO4 (power)
part K pins: A1 GND (power), A16 GND (power), B5 GND (power), B12 GND (power), C8 GND (power), E2 GND (power), E15 GND (power), H8 GND (power), H9 GND (power), H14 GND (power), J3 GND (power), J8 GND (power), J9 GND (power), M2 GND (power), M15 GND (power), P9 GND (power), R5 GND (power), R12 GND (power), T1 GND (power), T16 GND (power)
part L pins: G10 NC, T15 NC
part A text: BANK 0
part B text: BANK 1
part C text: BANK 2
part D text: BANK 3
part E text: BANK 4
part F text: BANK 5
part G text: BANK 6
part H text: BANK 7

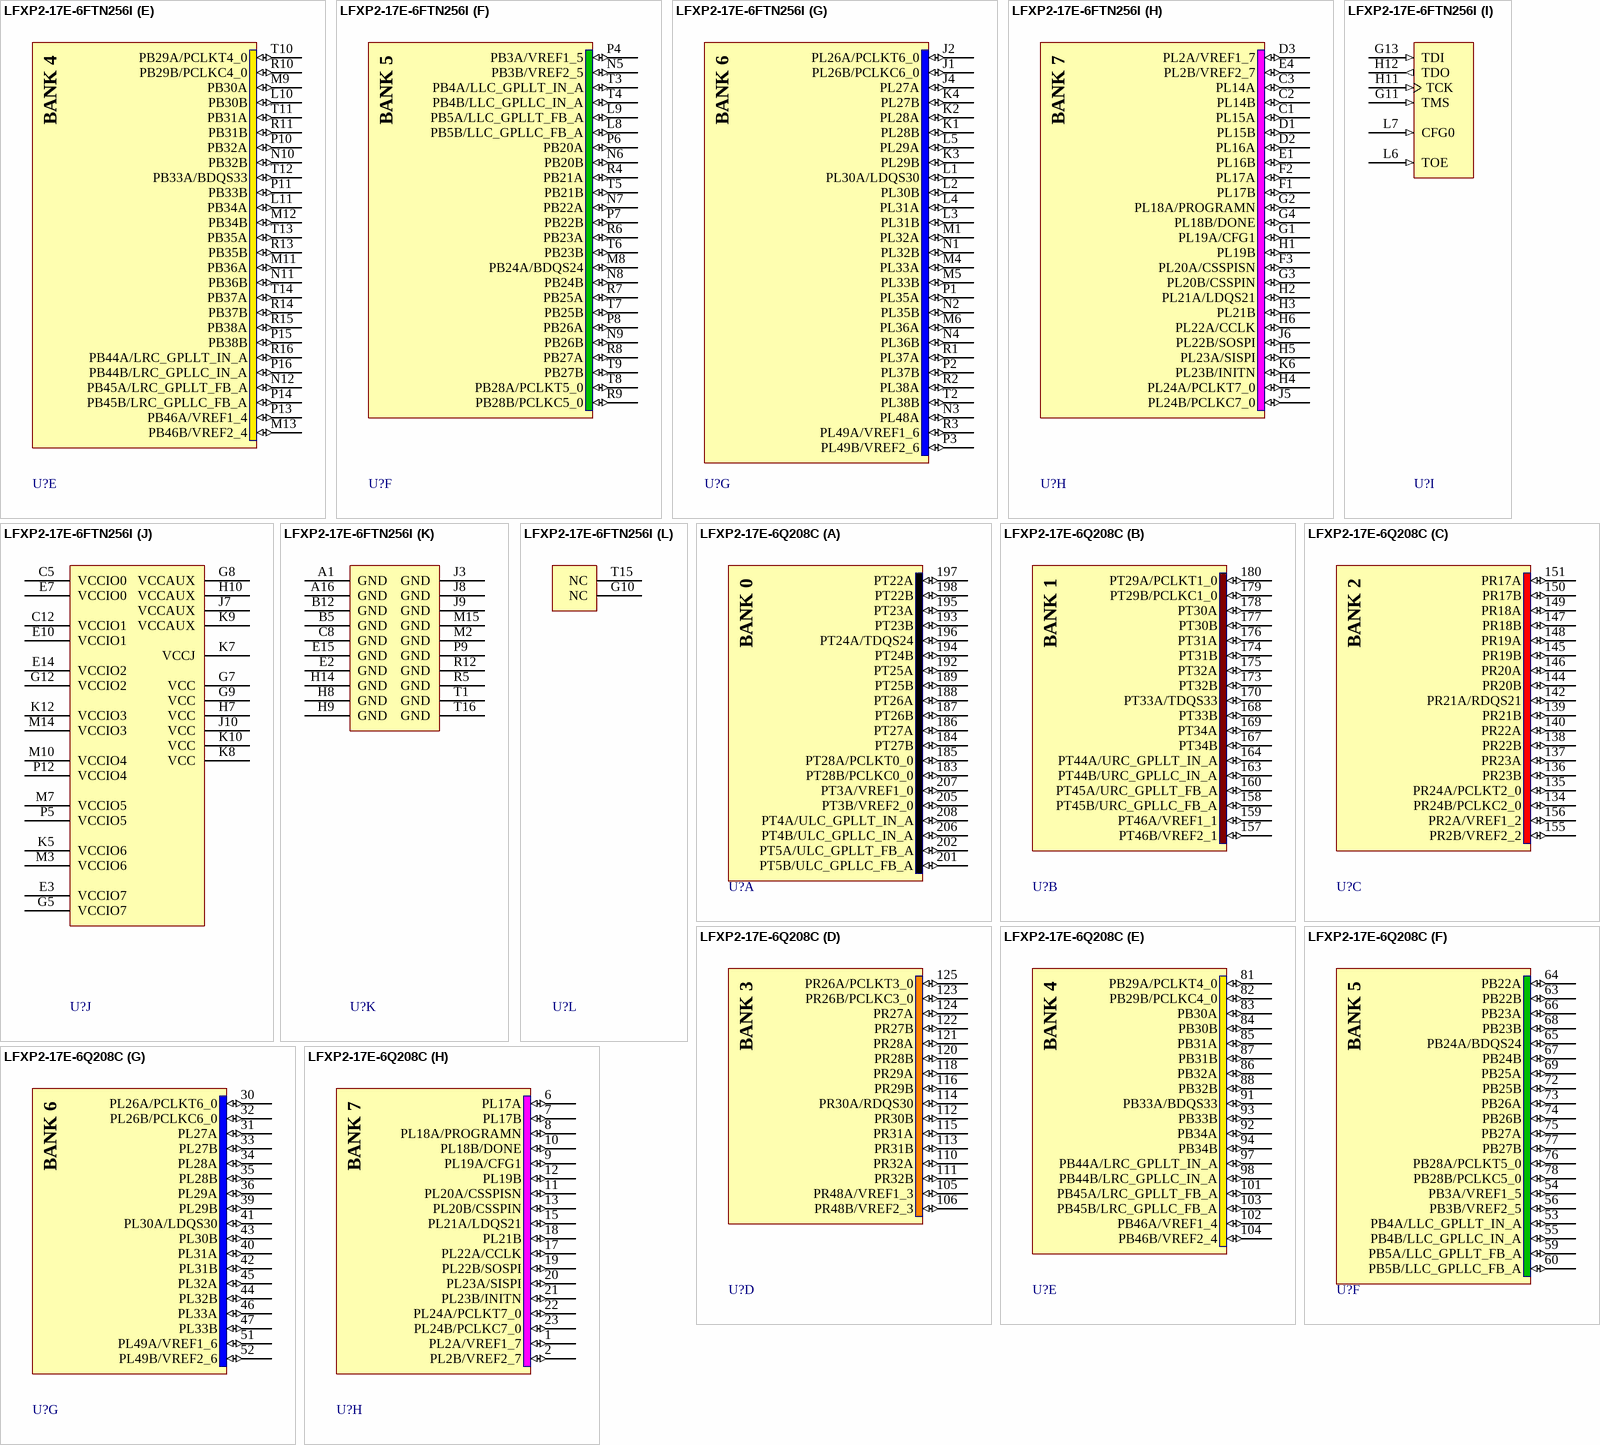
[diagram p80: symbols LFXP2-17E-6FTN256I to LFXP2-17E-6Q208C]

## LFXP2-17E-6FTN256I
designator U?
XP2, 1.2V FPGA, 201 I/Os, 17k LUTs, 256-Pin ftBGA, Speed Grade 6, Industrial Grade, Pb-Free; Published: 20-Jul-2007; DatasheetVersion: ver01.8, Jun-2008; PackageVersion: ver01.6 Apr-2008; PackageReference: ftBGA256; Publisher: Altium Limited; PackageDescription: 256-Ball Fine Thin Ball Grid Array (ftBGA256); ComponentLink1Description: Manufacturer Link; ComponentLink1URL: http://www.latticesemi.com/products/fpga/xp2/index.cfm; ComponentLink2Description: Datasheet; ComponentLink2URL: http://www.latticesemi.com/documents/DS1009.pdf; ComponentLink3Description: Packaging Specification; ComponentLink3URL: http://www.latticesemi.com/lit/docs/package/pkg.pdf
footprint ftBGA256 (BGA, 256-Leads, Body 17x17mm, Pitch 1mm)
3D model LFXP2-17E-FT256 (256-Ball Fine Thin Ball Grid Array (ftBGA256))
part A pins: A2 PT4B/ULC_GPLLC_IN_A (io), A3 PT19B (io), A4 PT21B (io), A5 PT23B (io), A6 PT25B (io), A7 PT27B (io), B1 PT4A/ULC_GPLLT_IN_A (io), B2 PT3A/VREF1_0 (io), B3 PT3B/VREF2_0 (io), B4 PT21A (io), B6 PT25A (io), B7 PT27A (io), C4 PT19A (io), C6 PT23A (io), C7 PT24B (io), D4 PT5B/ULC_GPLLC_FB_A (io), D5 PT18B (io), D6 PT24A/TDQS24 (io), D7 PT26A (io), E5 PT18A (io), E6 PT22A (io), E8 PT28A/PCLKT0_0 (io), F4 PT5A/ULC_GPLLT_FB_A (io), F5 PT20A (io), F6 PT22B (io), F7 PT26B (io), F8 PT28B/PCLKC0_0 (io), G6 PT20B (io)
part B pins: A8 PT29B/PCLKC1_0 (io), A9 PT30B (io), A10 PT33B (io), A11 PT35A (io), A12 PT44B/URC_GPLLC_IN_A (io), A13 PT46B/VREF2_1 (io), B8 PT29A/PCLKT1_0 (io), B9 PT30A (io), B10 PT33A/TDQS33 (io), B11 PT35B (io), B13 PT46A/VREF1_1 (io), C9 PT32A (io), C10 PT36A (io), C11 PT44A/URC_GPLLT_IN_A (io), D8 PT31A (io), D9 PT34A (io), D10 PT34B (io), D11 PT36B (io), D12 PT45B/URC_GPLLC_FB_A (io), E9 PT31B (io), E12 PT45A/URC_GPLLT_FB_A (io), F9 PT32B (io)
part C pins: A14 PR3A (io), A15 PR3B (io), B14 PR2B/VREF2_2 (io), B15 PR15A (io), B16 PR15B (io), C13 PR2A/VREF1_2 (io), C14 PR14A (io), C15 PR17A (io), C16 PR17B (io), D13 PR19A (io), D14 PR14B (io), D15 PR18A (io), D16 PR18B (io), E11 PR16A (io), E13 PR19B (io), E16 PR20A (io), F10 PR16B (io), F11 PR22B (io), F12 PR24A/PCLKT2_0 (io), F13 PR22A (io), F14 PR20B (io), F15 PR21A/RDQS21 (io), F16 PR21B (io), G14 PR24B/PCLKC2_0 (io), G15 PR23A (io), G16 PR23B (io)
part D pins: H13 PR27B (io), H15 PR26A/PCLKT3_0 (io), H16 PR26B/PCLKC3_0 (io), J11 PR30A/RDQS30 (io), J12 PR29B (io), J13 PR29A (io), J14 PR27A (io), J15 PR28A (io), J16 PR28B (io), K11 PR30B (io), K13 PR32B (io), K14 PR32A (io), K15 PR31A (io), K16 PR31B (io), L12 PR35B (io), L13 PR35A (io), L14 PR33B (io), L15 PR33A (io), L16 PR36A (io), M16 PR36B (io), N13 PR48A/VREF1_3 (io), N14 PR48B/VREF2_3 (io), N15 PR37A (io), N16 PR37B (io)
part E pins: L10 PB30B (io), L11 PB34A (io), M9 PB30A (io), M11 PB36A (io), M12 PB34B (io), M13 PB46B/VREF2_4 (io), N10 PB32B (io), N11 PB36B (io), N12 PB45A/LRC_GPLLT_FB_A (io), P10 PB32A (io), P11 PB33B (io), P13 PB46A/VREF1_4 (io), P14 PB45B/LRC_GPLLC_FB_A (io), P15 PB38B (io), P16 PB44B/LRC_GPLLC_IN_A (io), R10 PB29B/PCLKC4_0 (io), R11 PB31B (io), R13 PB35B (io), R14 PB37B (io), R15 PB38A (io), R16 PB44A/LRC_GPLLT_IN_A (io), T10 PB29A/PCLKT4_0 (io), T11 PB31A (io), T12 PB33A/BDQS33 (io), T13 PB35A (io), T14 PB37A (io)
part F pins: L8 PB5B/LLC_GPLLC_FB_A (io), L9 PB5A/LLC_GPLLT_FB_A (io), M8 PB24A/BDQS24 (io), N5 PB3B/VREF2_5 (io), N6 PB20B (io), N7 PB22A (io), N8 PB24B (io), N9 PB26B (io), P4 PB3A/VREF1_5 (io), P6 PB20A (io), P7 PB22B (io), P8 PB26A (io), R4 PB21A (io), R6 PB23A (io), R7 PB25A (io), R8 PB27A (io), R9 PB28B/PCLKC5_0 (io), T3 PB4A/LLC_GPLLT_IN_A (io), T4 PB4B/LLC_GPLLC_IN_A (io), T5 PB21B (io), T6 PB23B (io), T7 PB25B (io), T8 PB28A/PCLKT5_0 (io), T9 PB27B (io)
part G pins: J1 PL26B/PCLKC6_0 (io), J2 PL26A/PCLKT6_0 (io), J4 PL27A (io), K1 PL28B (io), K2 PL28A (io), K3 PL29B (io), K4 PL27B (io), L1 PL30A/LDQS30 (io), L2 PL30B (io), L3 PL31B (io), L4 PL31A (io), L5 PL29A (io), M1 PL32A (io), M4 PL33A (io), M5 PL33B (io), M6 PL36A (io), N1 PL32B (io), N2 PL35B (io), N3 PL48A (io), N4 PL36B (io), P1 PL35A (io), P2 PL37B (io), P3 PL49B/VREF2_6 (io), R1 PL37A (io), R2 PL38A (io), R3 PL49A/VREF1_6 (io), T2 PL38B (io)
part H pins: C1 PL15A (io), C2 PL14B (io), C3 PL14A (io), D1 PL15B (io), D2 PL16A (io), D3 PL2A/VREF1_7 (io), E1 PL16B (io), E4 PL2B/VREF2_7 (io), F1 PL17B (io), F2 PL17A (io), F3 PL20A/CSSPISN (io), G1 PL19A/CFG1 (io), G2 PL18A/PROGRAMN (io), G3 PL20B/CSSPIN (io), G4 PL18B/DONE (io), H1 PL19B (io), H2 PL21A/LDQS21 (io), H3 PL21B (io), H4 PL24A/PCLKT7_0 (io), H5 PL23A/SISPI (io), H6 PL22A/CCLK (io), J5 PL24B/PCLKC7_0 (io), J6 PL22B/SOSPI (io), K6 PL23B/INITN (io)
part I pins: G11 TMS (in), G13 TDI (in), H11 TCK (in), H12 TDO (out), L6 TOE (in), L7 CFG0 (in)
part J pins: C5 VCCIO0 (power), C12 VCCIO1 (power), E3 VCCIO7 (power), E7 VCCIO0 (power), E10 VCCIO1 (power), E14 VCCIO2 (power), G5 VCCIO7 (power), G7 VCC (power), G8 VCCAUX (power), G9 VCC (power), G12 VCCIO2 (power), H7 VCC (power), H10 VCCAUX (power), J7 VCCAUX (power), J10 VCC (power), K5 VCCIO6 (power), K7 VCCJ (power), K8 VCC (power), K9 VCCAUX (power), K10 VCC (power), K12 VCCIO3 (power), M3 VCCIO6 (power), M7 VCCIO5 (power), M10 VCCIO4 (power), M14 VCCIO3 (power), P5 VCCIO5 (power), P12 VCCIO4 (power)
part K pins: A1 GND (power), A16 GND (power), B5 GND (power), B12 GND (power), C8 GND (power), E2 GND (power), E15 GND (power), H8 GND (power), H9 GND (power), H14 GND (power), J3 GND (power), J8 GND (power), J9 GND (power), M2 GND (power), M15 GND (power), P9 GND (power), R5 GND (power), R12 GND (power), T1 GND (power), T16 GND (power)
part L pins: G10 NC, T15 NC
part A text: BANK 0
part B text: BANK 1
part C text: BANK 2
part D text: BANK 3
part E text: BANK 4
part F text: BANK 5
part G text: BANK 6
part H text: BANK 7

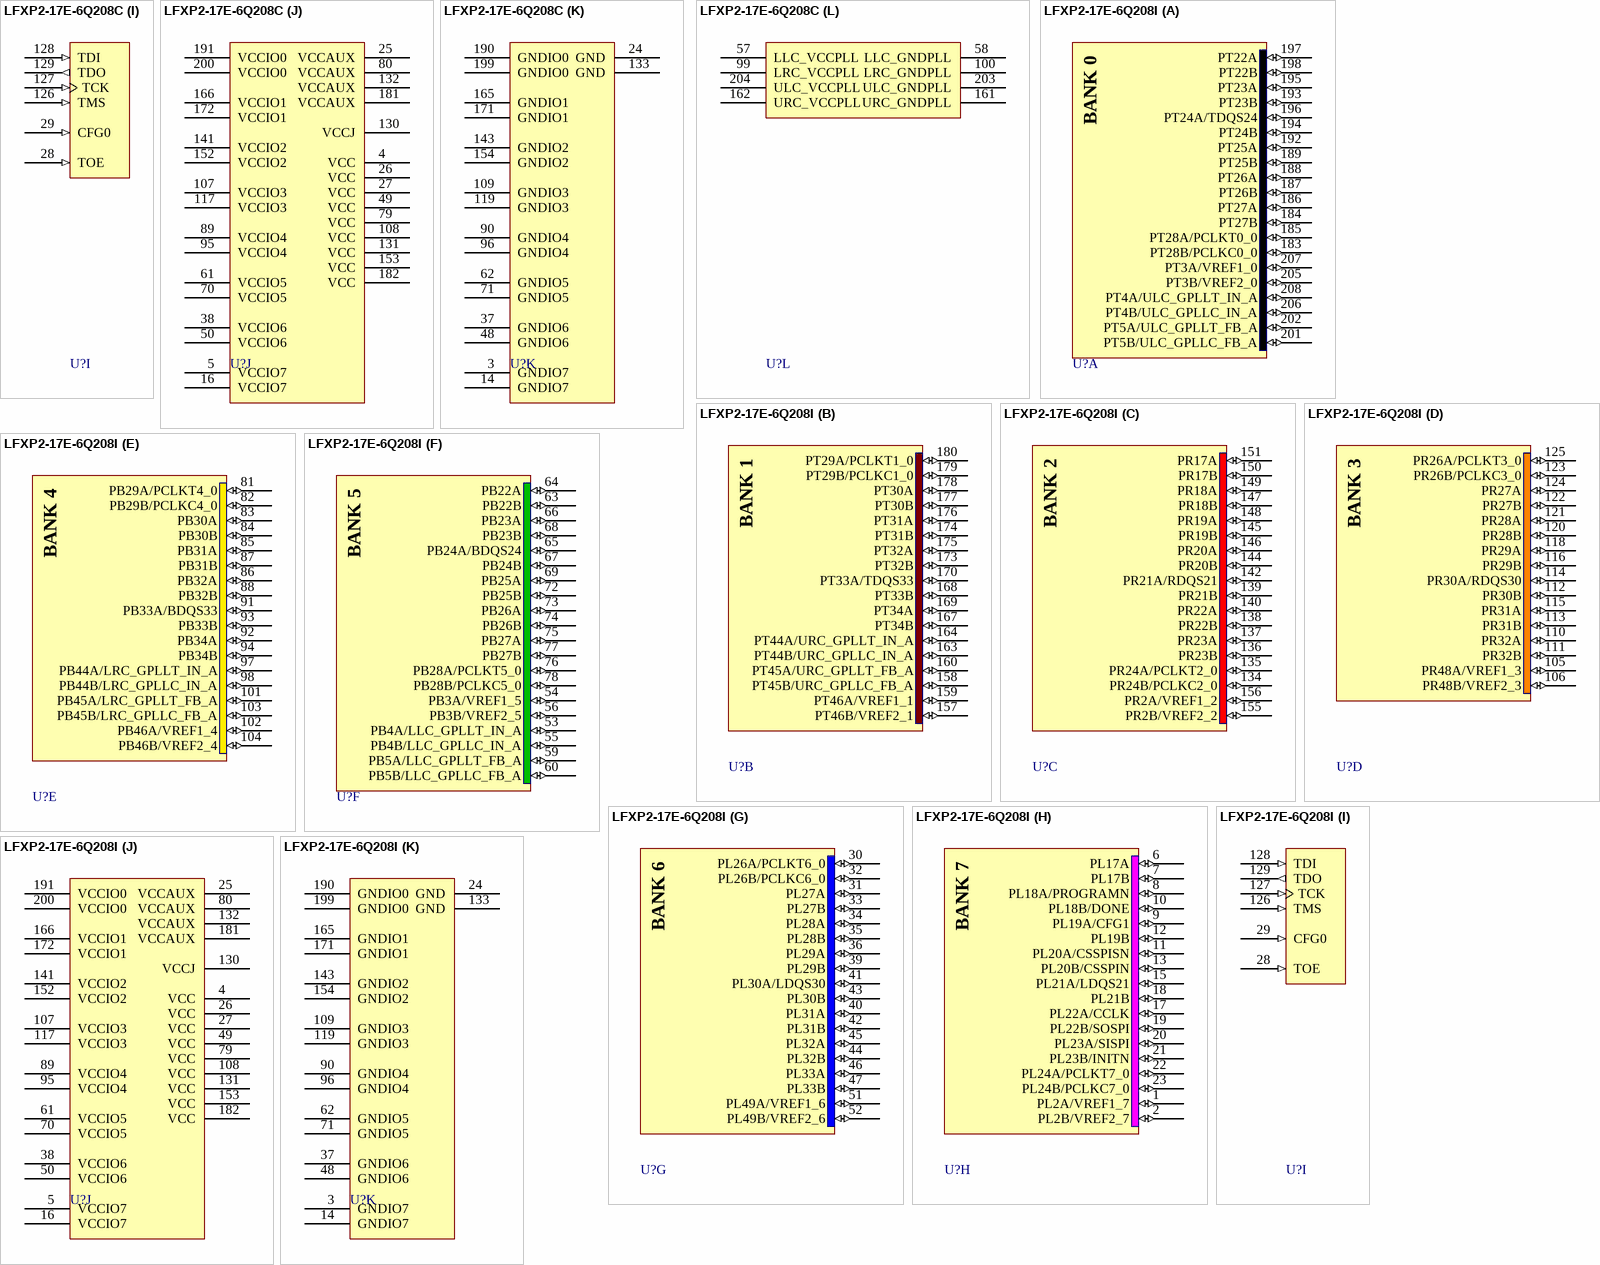
[diagram p81: symbols LFXP2-17E-6Q208C to LFXP2-17E-6Q208I]

## LFXP2-17E-6Q208C
designator U?
XP2, 1.2V FPGA, 146 I/Os, 17k LUTs, 208-Pin PQFP, Speed Grade 6, Commerical Grade; Published: 20-Jul-2007; DatasheetVersion: ver01.8, Jun-2008; PackageVersion: ver01.6 Apr-2008; PackageReference: PQFP208; Publisher: Altium Limited; PackageDescription: 208-Pin Plastic Quad Flat Pack (PQFP208); Code_JEDEC: MO-143-FAI; ComponentLink1Description: Manufacturer Link; ComponentLink1URL: http://www.latticesemi.com/products/fpga/xp2/index.cfm; ComponentLink2Description: Datasheet; ComponentLink2URL: http://www.latticesemi.com/documents/DS1009.pdf; ComponentLink3Description: Packaging Specification; ComponentLink3URL: http://www.latticesemi.com/lit/docs/package/pkg.pdf
footprint PQFP208_N (Shrink QFP, 208-Leads, Body 28x28mm, Pitch 0.5mm, IPC Medium Density)
footprint PQFP208_L (Shrink QFP, 208-Leads, Body 28x28mm, Pitch 0.5mm, IPC High Density)
footprint PQFP208_M (Shrink QFP, 208-Leads, Body 28x28mm, Pitch 0.5mm, IPC Low Density)
3D model LFXP2-17E-Q208 (208-Pin Plastic Quad Flat Pack (PQFP208))
part A pins: 183 PT28B/PCLKC0_0 (io), 184 PT27B (io), 185 PT28A/PCLKT0_0 (io), 186 PT27A (io), 187 PT26B (io), 188 PT26A (io), 189 PT25B (io), 192 PT25A (io), 193 PT23B (io), 194 PT24B (io), 195 PT23A (io), 196 PT24A/TDQS24 (io), 197 PT22A (io), 198 PT22B (io), 201 PT5B/ULC_GPLLC_FB_A (io), 202 PT5A/ULC_GPLLT_FB_A (io), 205 PT3B/VREF2_0 (io), 206 PT4B/ULC_GPLLC_IN_A (io), 207 PT3A/VREF1_0 (io), 208 PT4A/ULC_GPLLT_IN_A (io)
part B pins: 157 PT46B/VREF2_1 (io), 158 PT45B/URC_GPLLC_FB_A (io), 159 PT46A/VREF1_1 (io), 160 PT45A/URC_GPLLT_FB_A (io), 163 PT44B/URC_GPLLC_IN_A (io), 164 PT44A/URC_GPLLT_IN_A (io), 167 PT34B (io), 168 PT33B (io), 169 PT34A (io), 170 PT33A/TDQS33 (io), 173 PT32B (io), 174 PT31B (io), 175 PT32A (io), 176 PT31A (io), 177 PT30B (io), 178 PT30A (io), 179 PT29B/PCLKC1_0 (io), 180 PT29A/PCLKT1_0 (io)
part C pins: 134 PR24B/PCLKC2_0 (io), 135 PR24A/PCLKT2_0 (io), 136 PR23B (io), 137 PR23A (io), 138 PR22B (io), 139 PR21B (io), 140 PR22A (io), 142 PR21A/RDQS21 (io), 144 PR20B (io), 145 PR19B (io), 146 PR20A (io), 147 PR18B (io), 148 PR19A (io), 149 PR18A (io), 150 PR17B (io), 151 PR17A (io), 155 PR2B/VREF2_2 (io), 156 PR2A/VREF1_2 (io)
part D pins: 105 PR48A/VREF1_3 (io), 106 PR48B/VREF2_3 (io), 110 PR32A (io), 111 PR32B (io), 112 PR30B (io), 113 PR31B (io), 114 PR30A/RDQS30 (io), 115 PR31A (io), 116 PR29B (io), 118 PR29A (io), 120 PR28B (io), 121 PR28A (io), 122 PR27B (io), 123 PR26B/PCLKC3_0 (io), 124 PR27A (io), 125 PR26A/PCLKT3_0 (io)
part E pins: 81 PB29A/PCLKT4_0 (io), 82 PB29B/PCLKC4_0 (io), 83 PB30A (io), 84 PB30B (io), 85 PB31A (io), 86 PB32A (io), 87 PB31B (io), 88 PB32B (io), 91 PB33A/BDQS33 (io), 92 PB34A (io), 93 PB33B (io), 94 PB34B (io), 97 PB44A/LRC_GPLLT_IN_A (io), 98 PB44B/LRC_GPLLC_IN_A (io), 101 PB45A/LRC_GPLLT_FB_A (io), 102 PB46A/VREF1_4 (io), 103 PB45B/LRC_GPLLC_FB_A (io), 104 PB46B/VREF2_4 (io)
part F pins: 53 PB4A/LLC_GPLLT_IN_A (io), 54 PB3A/VREF1_5 (io), 55 PB4B/LLC_GPLLC_IN_A (io), 56 PB3B/VREF2_5 (io), 59 PB5A/LLC_GPLLT_FB_A (io), 60 PB5B/LLC_GPLLC_FB_A (io), 63 PB22B (io), 64 PB22A (io), 65 PB24A/BDQS24 (io), 66 PB23A (io), 67 PB24B (io), 68 PB23B (io), 69 PB25A (io), 72 PB25B (io), 73 PB26A (io), 74 PB26B (io), 75 PB27A (io), 76 PB28A/PCLKT5_0 (io), 77 PB27B (io), 78 PB28B/PCLKC5_0 (io)
part G pins: 30 PL26A/PCLKT6_0 (io), 31 PL27A (io), 32 PL26B/PCLKC6_0 (io), 33 PL27B (io), 34 PL28A (io), 35 PL28B (io), 36 PL29A (io), 39 PL29B (io), 40 PL31A (io), 41 PL30A/LDQS30 (io), 42 PL31B (io), 43 PL30B (io), 44 PL32B (io), 45 PL32A (io), 46 PL33A (io), 47 PL33B (io), 51 PL49A/VREF1_6 (io), 52 PL49B/VREF2_6 (io)
part H pins: 1 PL2A/VREF1_7 (io), 2 PL2B/VREF2_7 (io), 6 PL17A (io), 7 PL17B (io), 8 PL18A/PROGRAMN (io), 9 PL19A/CFG1 (io), 10 PL18B/DONE (io), 11 PL20A/CSSPISN (io), 12 PL19B (io), 13 PL20B/CSSPIN (io), 15 PL21A/LDQS21 (io), 17 PL22A/CCLK (io), 18 PL21B (io), 19 PL22B/SOSPI (io), 20 PL23A/SISPI (io), 21 PL23B/INITN (io), 22 PL24A/PCLKT7_0 (io), 23 PL24B/PCLKC7_0 (io)
part I pins: 28 TOE (in), 29 CFG0 (in), 126 TMS (in), 127 TCK (in), 128 TDI (in), 129 TDO (out)
part J pins: 4 VCC (power), 5 VCCIO7 (power), 16 VCCIO7 (power), 25 VCCAUX (power), 26 VCC (power), 27 VCC (power), 38 VCCIO6 (power), 49 VCC (power), 50 VCCIO6 (power), 61 VCCIO5 (power), 70 VCCIO5 (power), 79 VCC (power), 80 VCCAUX (power), 89 VCCIO4 (power), 95 VCCIO4 (power), 107 VCCIO3 (power), 108 VCC (power), 117 VCCIO3 (power), 130 VCCJ (power), 131 VCC (power), 132 VCCAUX (power), 141 VCCIO2 (power), 152 VCCIO2 (power), 153 VCC (power), 166 VCCIO1 (power), 172 VCCIO1 (power), 181 VCCAUX (power), 182 VCC (power), 191 VCCIO0 (power), 200 VCCIO0 (power)
part K pins: 3 GNDIO7 (power), 14 GNDIO7 (power), 24 GND (power), 37 GNDIO6 (power), 48 GNDIO6 (power), 62 GNDIO5 (power), 71 GNDIO5 (power), 90 GNDIO4 (power), 96 GNDIO4 (power), 109 GNDIO3 (power), 119 GNDIO3 (power), 133 GND (power), 143 GNDIO2 (power), 154 GNDIO2 (power), 165 GNDIO1 (power), 171 GNDIO1 (power), 190 GNDIO0 (power), 199 GNDIO0 (power)
part L pins: 57 LLC_VCCPLL (power), 58 LLC_GNDPLL (power), 99 LRC_VCCPLL (power), 100 LRC_GNDPLL (power), 161 URC_GNDPLL (power), 162 URC_VCCPLL (power), 203 ULC_GNDPLL (power), 204 ULC_VCCPLL (power)
part A text: BANK 0
part B text: BANK 1
part C text: BANK 2
part D text: BANK 3
part E text: BANK 4
part F text: BANK 5
part G text: BANK 6
part H text: BANK 7

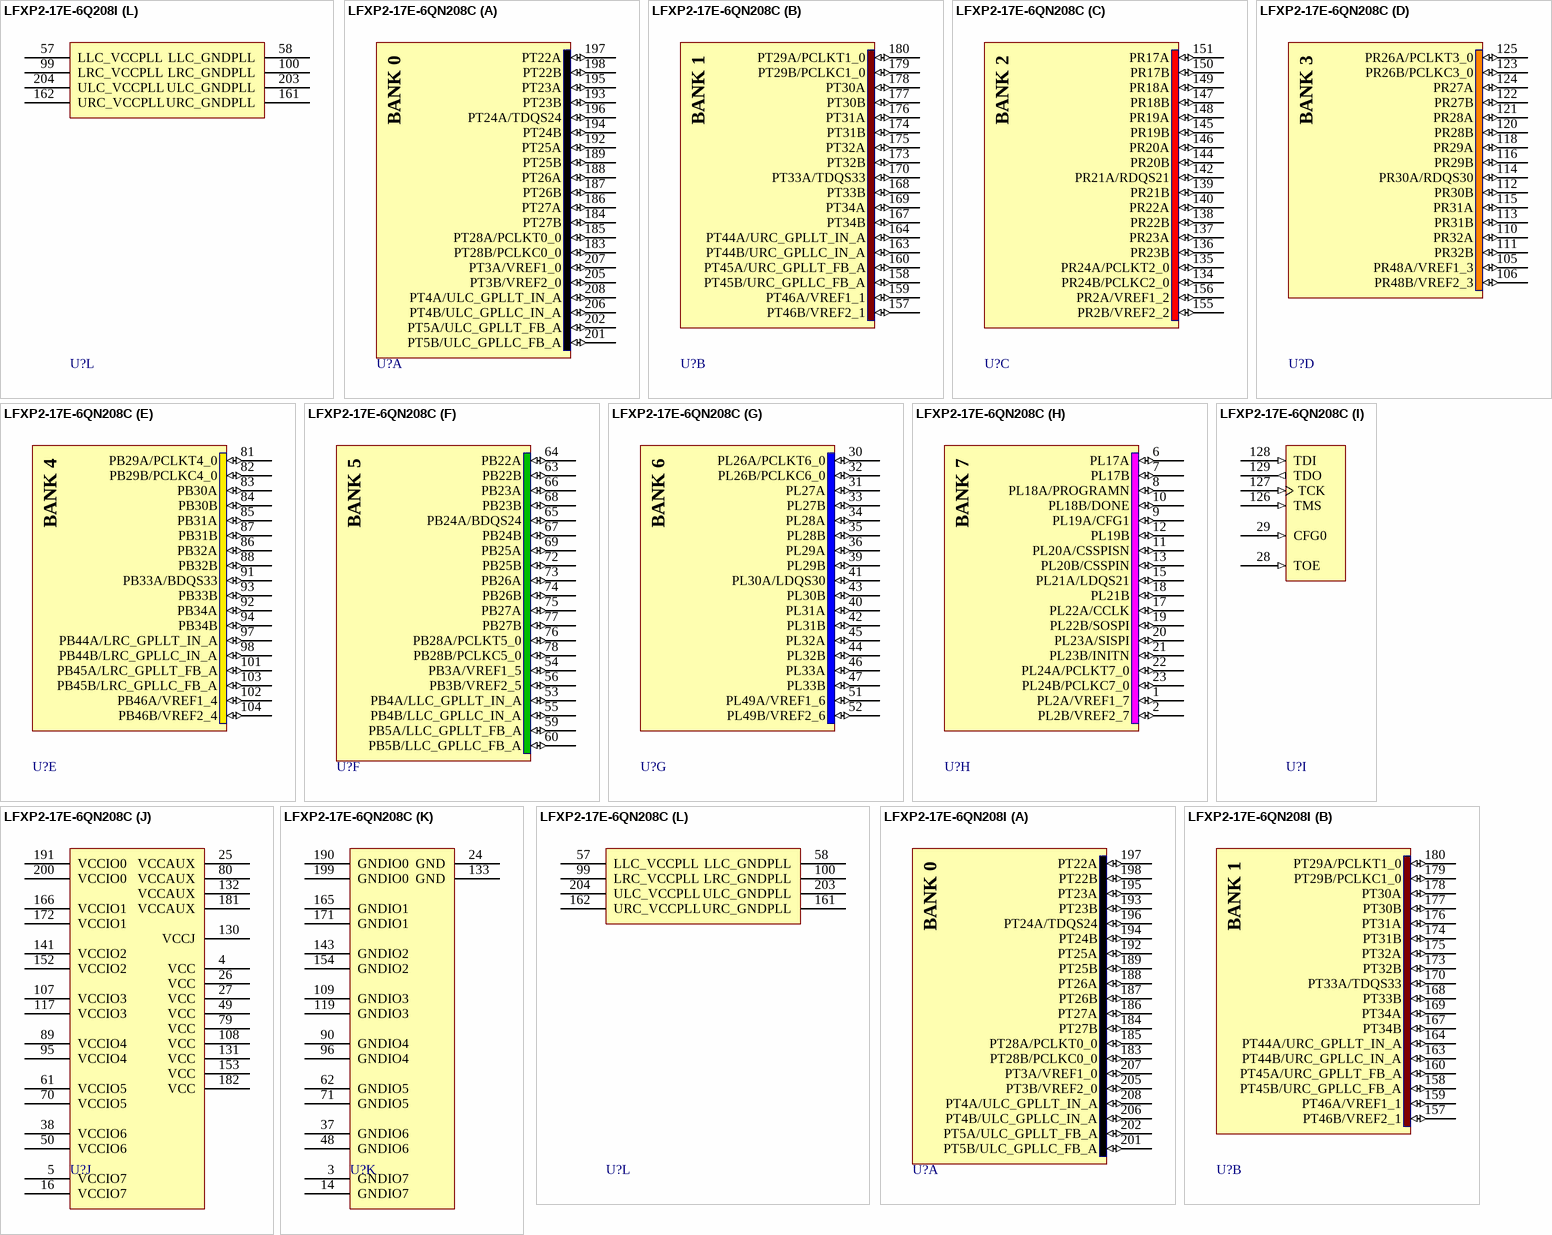
[diagram p82: symbols LFXP2-17E-6Q208I to LFXP2-17E-6QN208I]

## LFXP2-17E-6Q208I
designator U?
XP2, 1.2V FPGA, 146 I/Os, 17k LUTs, 208-Pin PQFP, Speed Grade 6, Industrial Grade; Published: 20-Jul-2007; DatasheetVersion: ver01.8, Jun-2008; PackageVersion: ver01.6 Apr-2008; PackageReference: PQFP208; Publisher: Altium Limited; PackageDescription: 208-Pin Plastic Quad Flat Pack (PQFP208); Code_JEDEC: MO-143-FAI; ComponentLink1Description: Manufacturer Link; ComponentLink1URL: http://www.latticesemi.com/products/fpga/xp2/index.cfm; ComponentLink2Description: Datasheet; ComponentLink2URL: http://www.latticesemi.com/documents/DS1009.pdf; ComponentLink3Description: Packaging Specification; ComponentLink3URL: http://www.latticesemi.com/lit/docs/package/pkg.pdf
footprint PQFP208_N (Shrink QFP, 208-Leads, Body 28x28mm, Pitch 0.5mm, IPC Medium Density)
footprint PQFP208_L (Shrink QFP, 208-Leads, Body 28x28mm, Pitch 0.5mm, IPC High Density)
footprint PQFP208_M (Shrink QFP, 208-Leads, Body 28x28mm, Pitch 0.5mm, IPC Low Density)
3D model LFXP2-17E-Q208 (208-Pin Plastic Quad Flat Pack (PQFP208))
part A pins: 183 PT28B/PCLKC0_0 (io), 184 PT27B (io), 185 PT28A/PCLKT0_0 (io), 186 PT27A (io), 187 PT26B (io), 188 PT26A (io), 189 PT25B (io), 192 PT25A (io), 193 PT23B (io), 194 PT24B (io), 195 PT23A (io), 196 PT24A/TDQS24 (io), 197 PT22A (io), 198 PT22B (io), 201 PT5B/ULC_GPLLC_FB_A (io), 202 PT5A/ULC_GPLLT_FB_A (io), 205 PT3B/VREF2_0 (io), 206 PT4B/ULC_GPLLC_IN_A (io), 207 PT3A/VREF1_0 (io), 208 PT4A/ULC_GPLLT_IN_A (io)
part B pins: 157 PT46B/VREF2_1 (io), 158 PT45B/URC_GPLLC_FB_A (io), 159 PT46A/VREF1_1 (io), 160 PT45A/URC_GPLLT_FB_A (io), 163 PT44B/URC_GPLLC_IN_A (io), 164 PT44A/URC_GPLLT_IN_A (io), 167 PT34B (io), 168 PT33B (io), 169 PT34A (io), 170 PT33A/TDQS33 (io), 173 PT32B (io), 174 PT31B (io), 175 PT32A (io), 176 PT31A (io), 177 PT30B (io), 178 PT30A (io), 179 PT29B/PCLKC1_0 (io), 180 PT29A/PCLKT1_0 (io)
part C pins: 134 PR24B/PCLKC2_0 (io), 135 PR24A/PCLKT2_0 (io), 136 PR23B (io), 137 PR23A (io), 138 PR22B (io), 139 PR21B (io), 140 PR22A (io), 142 PR21A/RDQS21 (io), 144 PR20B (io), 145 PR19B (io), 146 PR20A (io), 147 PR18B (io), 148 PR19A (io), 149 PR18A (io), 150 PR17B (io), 151 PR17A (io), 155 PR2B/VREF2_2 (io), 156 PR2A/VREF1_2 (io)
part D pins: 105 PR48A/VREF1_3 (io), 106 PR48B/VREF2_3 (io), 110 PR32A (io), 111 PR32B (io), 112 PR30B (io), 113 PR31B (io), 114 PR30A/RDQS30 (io), 115 PR31A (io), 116 PR29B (io), 118 PR29A (io), 120 PR28B (io), 121 PR28A (io), 122 PR27B (io), 123 PR26B/PCLKC3_0 (io), 124 PR27A (io), 125 PR26A/PCLKT3_0 (io)
part E pins: 81 PB29A/PCLKT4_0 (io), 82 PB29B/PCLKC4_0 (io), 83 PB30A (io), 84 PB30B (io), 85 PB31A (io), 86 PB32A (io), 87 PB31B (io), 88 PB32B (io), 91 PB33A/BDQS33 (io), 92 PB34A (io), 93 PB33B (io), 94 PB34B (io), 97 PB44A/LRC_GPLLT_IN_A (io), 98 PB44B/LRC_GPLLC_IN_A (io), 101 PB45A/LRC_GPLLT_FB_A (io), 102 PB46A/VREF1_4 (io), 103 PB45B/LRC_GPLLC_FB_A (io), 104 PB46B/VREF2_4 (io)
part F pins: 53 PB4A/LLC_GPLLT_IN_A (io), 54 PB3A/VREF1_5 (io), 55 PB4B/LLC_GPLLC_IN_A (io), 56 PB3B/VREF2_5 (io), 59 PB5A/LLC_GPLLT_FB_A (io), 60 PB5B/LLC_GPLLC_FB_A (io), 63 PB22B (io), 64 PB22A (io), 65 PB24A/BDQS24 (io), 66 PB23A (io), 67 PB24B (io), 68 PB23B (io), 69 PB25A (io), 72 PB25B (io), 73 PB26A (io), 74 PB26B (io), 75 PB27A (io), 76 PB28A/PCLKT5_0 (io), 77 PB27B (io), 78 PB28B/PCLKC5_0 (io)
part G pins: 30 PL26A/PCLKT6_0 (io), 31 PL27A (io), 32 PL26B/PCLKC6_0 (io), 33 PL27B (io), 34 PL28A (io), 35 PL28B (io), 36 PL29A (io), 39 PL29B (io), 40 PL31A (io), 41 PL30A/LDQS30 (io), 42 PL31B (io), 43 PL30B (io), 44 PL32B (io), 45 PL32A (io), 46 PL33A (io), 47 PL33B (io), 51 PL49A/VREF1_6 (io), 52 PL49B/VREF2_6 (io)
part H pins: 1 PL2A/VREF1_7 (io), 2 PL2B/VREF2_7 (io), 6 PL17A (io), 7 PL17B (io), 8 PL18A/PROGRAMN (io), 9 PL19A/CFG1 (io), 10 PL18B/DONE (io), 11 PL20A/CSSPISN (io), 12 PL19B (io), 13 PL20B/CSSPIN (io), 15 PL21A/LDQS21 (io), 17 PL22A/CCLK (io), 18 PL21B (io), 19 PL22B/SOSPI (io), 20 PL23A/SISPI (io), 21 PL23B/INITN (io), 22 PL24A/PCLKT7_0 (io), 23 PL24B/PCLKC7_0 (io)
part I pins: 28 TOE (in), 29 CFG0 (in), 126 TMS (in), 127 TCK (in), 128 TDI (in), 129 TDO (out)
part J pins: 4 VCC (power), 5 VCCIO7 (power), 16 VCCIO7 (power), 25 VCCAUX (power), 26 VCC (power), 27 VCC (power), 38 VCCIO6 (power), 49 VCC (power), 50 VCCIO6 (power), 61 VCCIO5 (power), 70 VCCIO5 (power), 79 VCC (power), 80 VCCAUX (power), 89 VCCIO4 (power), 95 VCCIO4 (power), 107 VCCIO3 (power), 108 VCC (power), 117 VCCIO3 (power), 130 VCCJ (power), 131 VCC (power), 132 VCCAUX (power), 141 VCCIO2 (power), 152 VCCIO2 (power), 153 VCC (power), 166 VCCIO1 (power), 172 VCCIO1 (power), 181 VCCAUX (power), 182 VCC (power), 191 VCCIO0 (power), 200 VCCIO0 (power)
part K pins: 3 GNDIO7 (power), 14 GNDIO7 (power), 24 GND (power), 37 GNDIO6 (power), 48 GNDIO6 (power), 62 GNDIO5 (power), 71 GNDIO5 (power), 90 GNDIO4 (power), 96 GNDIO4 (power), 109 GNDIO3 (power), 119 GNDIO3 (power), 133 GND (power), 143 GNDIO2 (power), 154 GNDIO2 (power), 165 GNDIO1 (power), 171 GNDIO1 (power), 190 GNDIO0 (power), 199 GNDIO0 (power)
part L pins: 57 LLC_VCCPLL (power), 58 LLC_GNDPLL (power), 99 LRC_VCCPLL (power), 100 LRC_GNDPLL (power), 161 URC_GNDPLL (power), 162 URC_VCCPLL (power), 203 ULC_GNDPLL (power), 204 ULC_VCCPLL (power)
part A text: BANK 0
part B text: BANK 1
part C text: BANK 2
part D text: BANK 3
part E text: BANK 4
part F text: BANK 5
part G text: BANK 6
part H text: BANK 7

## LFXP2-17E-6QN208C
designator U?
XP2, 1.2V FPGA, 146 I/Os, 17k LUTs, 208-Pin PQFP, Speed Grade 6, Commerical Grade, Pb-Free; Published: 20-Jul-2007; DatasheetVersion: ver01.8, Jun-2008; PackageVersion: ver01.6 Apr-2008; PackageReference: PQFP208; Publisher: Altium Limited; PackageDescription: 208-Pin Plastic Quad Flat Pack (PQFP208); Code_JEDEC: MO-143-FAI; ComponentLink1Description: Manufacturer Link; ComponentLink1URL: http://www.latticesemi.com/products/fpga/xp2/index.cfm; ComponentLink2Description: Datasheet; ComponentLink2URL: http://www.latticesemi.com/documents/DS1009.pdf; ComponentLink3Description: Packaging Specification; ComponentLink3URL: http://www.latticesemi.com/lit/docs/package/pkg.pdf
footprint PQFP208_N (Shrink QFP, 208-Leads, Body 28x28mm, Pitch 0.5mm, IPC Medium Density)
footprint PQFP208_L (Shrink QFP, 208-Leads, Body 28x28mm, Pitch 0.5mm, IPC High Density)
footprint PQFP208_M (Shrink QFP, 208-Leads, Body 28x28mm, Pitch 0.5mm, IPC Low Density)
3D model LFXP2-17E-Q208 (208-Pin Plastic Quad Flat Pack (PQFP208))
part A pins: 183 PT28B/PCLKC0_0 (io), 184 PT27B (io), 185 PT28A/PCLKT0_0 (io), 186 PT27A (io), 187 PT26B (io), 188 PT26A (io), 189 PT25B (io), 192 PT25A (io), 193 PT23B (io), 194 PT24B (io), 195 PT23A (io), 196 PT24A/TDQS24 (io), 197 PT22A (io), 198 PT22B (io), 201 PT5B/ULC_GPLLC_FB_A (io), 202 PT5A/ULC_GPLLT_FB_A (io), 205 PT3B/VREF2_0 (io), 206 PT4B/ULC_GPLLC_IN_A (io), 207 PT3A/VREF1_0 (io), 208 PT4A/ULC_GPLLT_IN_A (io)
part B pins: 157 PT46B/VREF2_1 (io), 158 PT45B/URC_GPLLC_FB_A (io), 159 PT46A/VREF1_1 (io), 160 PT45A/URC_GPLLT_FB_A (io), 163 PT44B/URC_GPLLC_IN_A (io), 164 PT44A/URC_GPLLT_IN_A (io), 167 PT34B (io), 168 PT33B (io), 169 PT34A (io), 170 PT33A/TDQS33 (io), 173 PT32B (io), 174 PT31B (io), 175 PT32A (io), 176 PT31A (io), 177 PT30B (io), 178 PT30A (io), 179 PT29B/PCLKC1_0 (io), 180 PT29A/PCLKT1_0 (io)
part C pins: 134 PR24B/PCLKC2_0 (io), 135 PR24A/PCLKT2_0 (io), 136 PR23B (io), 137 PR23A (io), 138 PR22B (io), 139 PR21B (io), 140 PR22A (io), 142 PR21A/RDQS21 (io), 144 PR20B (io), 145 PR19B (io), 146 PR20A (io), 147 PR18B (io), 148 PR19A (io), 149 PR18A (io), 150 PR17B (io), 151 PR17A (io), 155 PR2B/VREF2_2 (io), 156 PR2A/VREF1_2 (io)
part D pins: 105 PR48A/VREF1_3 (io), 106 PR48B/VREF2_3 (io), 110 PR32A (io), 111 PR32B (io), 112 PR30B (io), 113 PR31B (io), 114 PR30A/RDQS30 (io), 115 PR31A (io), 116 PR29B (io), 118 PR29A (io), 120 PR28B (io), 121 PR28A (io), 122 PR27B (io), 123 PR26B/PCLKC3_0 (io), 124 PR27A (io), 125 PR26A/PCLKT3_0 (io)
part E pins: 81 PB29A/PCLKT4_0 (io), 82 PB29B/PCLKC4_0 (io), 83 PB30A (io), 84 PB30B (io), 85 PB31A (io), 86 PB32A (io), 87 PB31B (io), 88 PB32B (io), 91 PB33A/BDQS33 (io), 92 PB34A (io), 93 PB33B (io), 94 PB34B (io), 97 PB44A/LRC_GPLLT_IN_A (io), 98 PB44B/LRC_GPLLC_IN_A (io), 101 PB45A/LRC_GPLLT_FB_A (io), 102 PB46A/VREF1_4 (io), 103 PB45B/LRC_GPLLC_FB_A (io), 104 PB46B/VREF2_4 (io)
part F pins: 53 PB4A/LLC_GPLLT_IN_A (io), 54 PB3A/VREF1_5 (io), 55 PB4B/LLC_GPLLC_IN_A (io), 56 PB3B/VREF2_5 (io), 59 PB5A/LLC_GPLLT_FB_A (io), 60 PB5B/LLC_GPLLC_FB_A (io), 63 PB22B (io), 64 PB22A (io), 65 PB24A/BDQS24 (io), 66 PB23A (io), 67 PB24B (io), 68 PB23B (io), 69 PB25A (io), 72 PB25B (io), 73 PB26A (io), 74 PB26B (io), 75 PB27A (io), 76 PB28A/PCLKT5_0 (io), 77 PB27B (io), 78 PB28B/PCLKC5_0 (io)
part G pins: 30 PL26A/PCLKT6_0 (io), 31 PL27A (io), 32 PL26B/PCLKC6_0 (io), 33 PL27B (io), 34 PL28A (io), 35 PL28B (io), 36 PL29A (io), 39 PL29B (io), 40 PL31A (io), 41 PL30A/LDQS30 (io), 42 PL31B (io), 43 PL30B (io), 44 PL32B (io), 45 PL32A (io), 46 PL33A (io), 47 PL33B (io), 51 PL49A/VREF1_6 (io), 52 PL49B/VREF2_6 (io)
part H pins: 1 PL2A/VREF1_7 (io), 2 PL2B/VREF2_7 (io), 6 PL17A (io), 7 PL17B (io), 8 PL18A/PROGRAMN (io), 9 PL19A/CFG1 (io), 10 PL18B/DONE (io), 11 PL20A/CSSPISN (io), 12 PL19B (io), 13 PL20B/CSSPIN (io), 15 PL21A/LDQS21 (io), 17 PL22A/CCLK (io), 18 PL21B (io), 19 PL22B/SOSPI (io), 20 PL23A/SISPI (io), 21 PL23B/INITN (io), 22 PL24A/PCLKT7_0 (io), 23 PL24B/PCLKC7_0 (io)
part I pins: 28 TOE (in), 29 CFG0 (in), 126 TMS (in), 127 TCK (in), 128 TDI (in), 129 TDO (out)
part J pins: 4 VCC (power), 5 VCCIO7 (power), 16 VCCIO7 (power), 25 VCCAUX (power), 26 VCC (power), 27 VCC (power), 38 VCCIO6 (power), 49 VCC (power), 50 VCCIO6 (power), 61 VCCIO5 (power), 70 VCCIO5 (power), 79 VCC (power), 80 VCCAUX (power), 89 VCCIO4 (power), 95 VCCIO4 (power), 107 VCCIO3 (power), 108 VCC (power), 117 VCCIO3 (power), 130 VCCJ (power), 131 VCC (power), 132 VCCAUX (power), 141 VCCIO2 (power), 152 VCCIO2 (power), 153 VCC (power), 166 VCCIO1 (power), 172 VCCIO1 (power), 181 VCCAUX (power), 182 VCC (power), 191 VCCIO0 (power), 200 VCCIO0 (power)
part K pins: 3 GNDIO7 (power), 14 GNDIO7 (power), 24 GND (power), 37 GNDIO6 (power), 48 GNDIO6 (power), 62 GNDIO5 (power), 71 GNDIO5 (power), 90 GNDIO4 (power), 96 GNDIO4 (power), 109 GNDIO3 (power), 119 GNDIO3 (power), 133 GND (power), 143 GNDIO2 (power), 154 GNDIO2 (power), 165 GNDIO1 (power), 171 GNDIO1 (power), 190 GNDIO0 (power), 199 GNDIO0 (power)
part L pins: 57 LLC_VCCPLL (power), 58 LLC_GNDPLL (power), 99 LRC_VCCPLL (power), 100 LRC_GNDPLL (power), 161 URC_GNDPLL (power), 162 URC_VCCPLL (power), 203 ULC_GNDPLL (power), 204 ULC_VCCPLL (power)
part A text: BANK 0
part B text: BANK 1
part C text: BANK 2
part D text: BANK 3
part E text: BANK 4
part F text: BANK 5
part G text: BANK 6
part H text: BANK 7

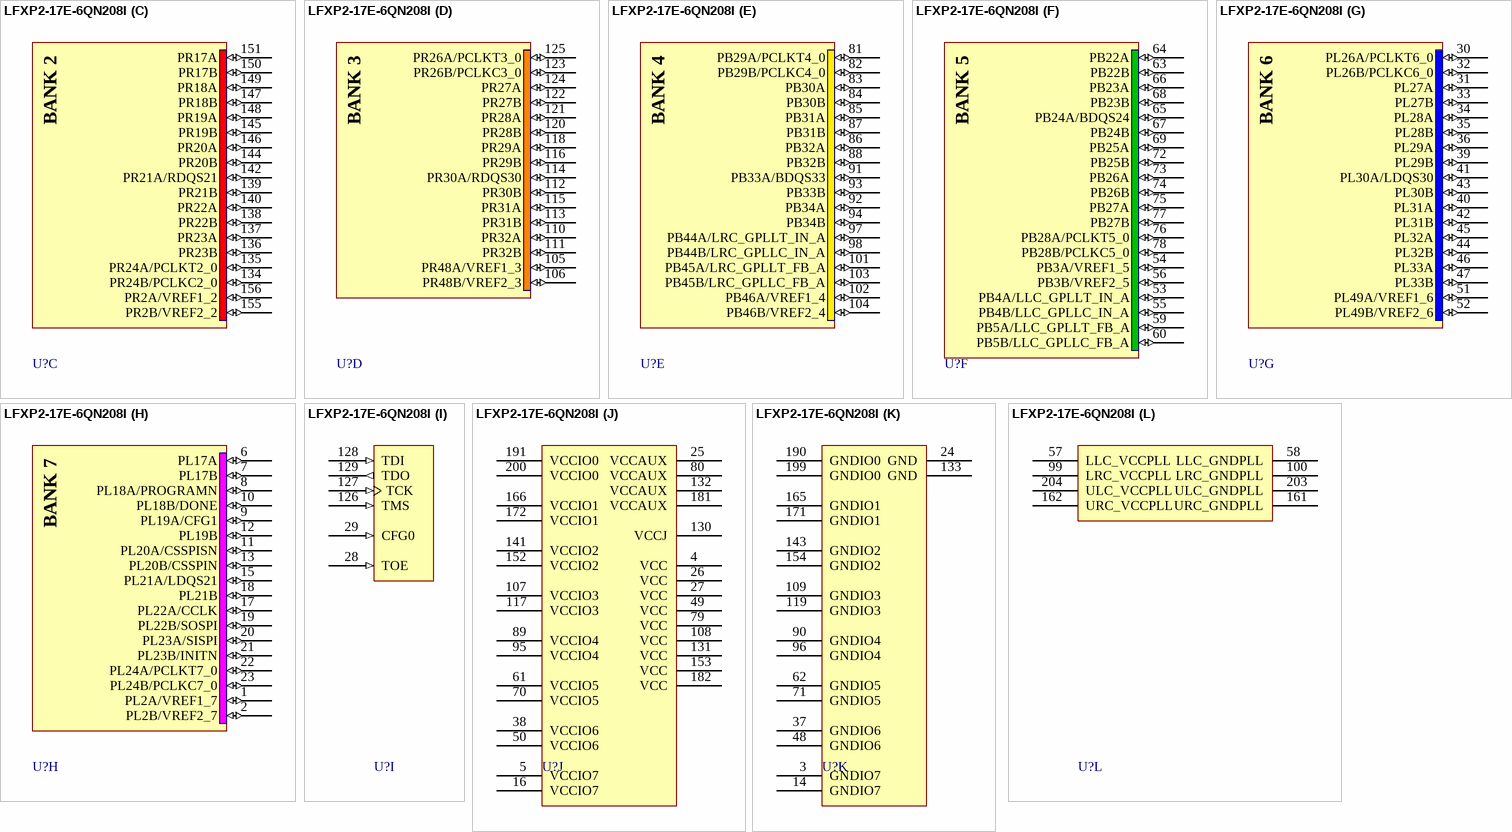
[diagram p83: symbol LFXP2-17E-6QN208I]